# Altium schematic symbol library myICs.SchLib: 72 symbols
Pins are listed as number, name and electrical type; pins without a type are passive.

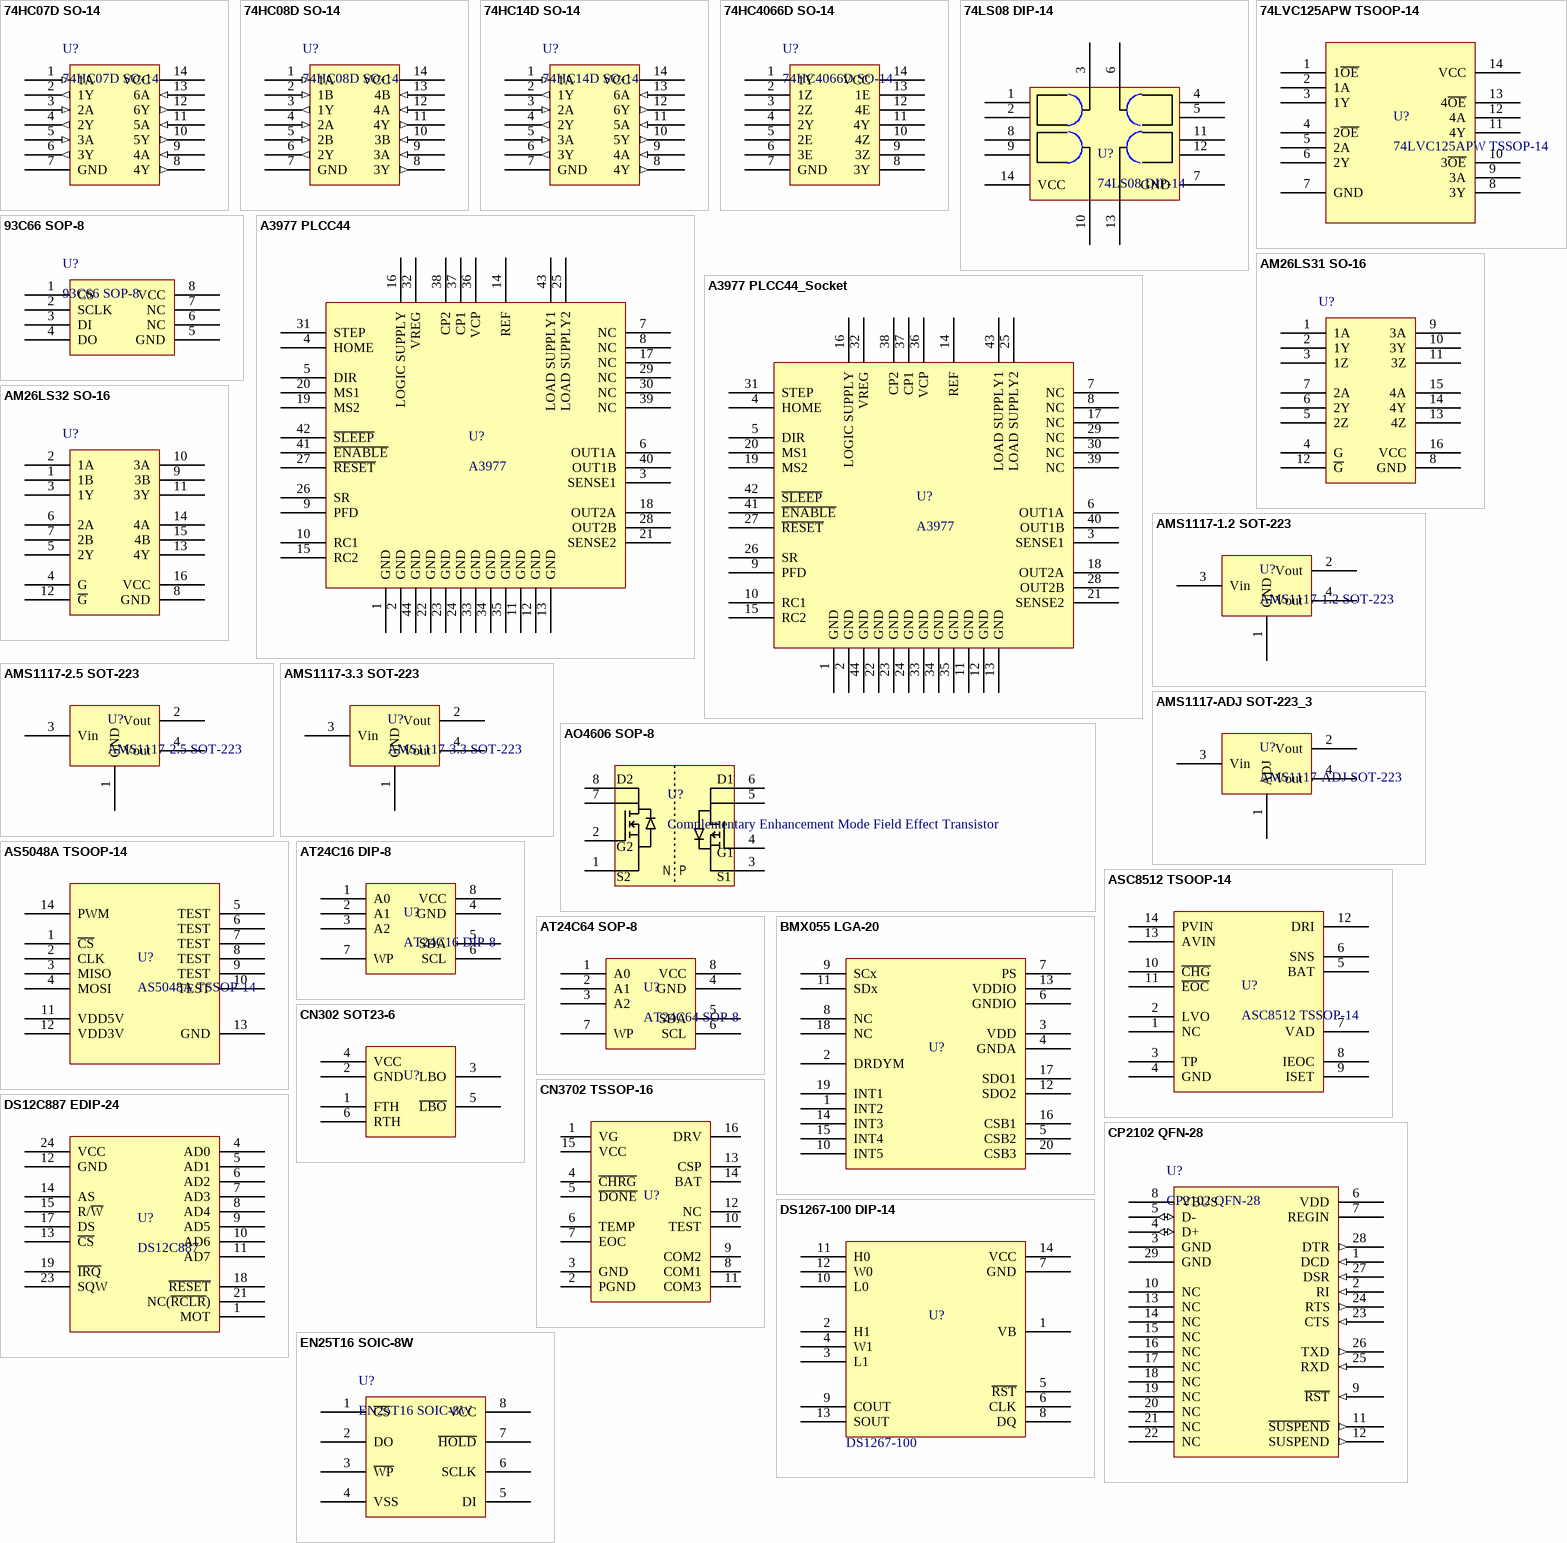
[diagram p0: symbols 74HC07D SO-14 to EN25T16 SOIC-8W]

## 74HC07D SO-14
designator U?
Hex Buffers/Drivers with Open-collector High-voltage Outputs
footprint 74HC07D SO-14 (SOP, 14-Leads, Body 8.7x3.9mm, Pitch 1.27mm, IPC Medium Density)
pins: 1 1A (in), 2 1Y (out), 3 2A (in), 4 2Y (out), 5 3A (in), 6 3Y (out), 7 GND (power), 8 4Y (out), 9 4A (in), 10 5Y (out), 11 5A (in), 12 6Y (out), 13 6A (in), 14 VCC (power)

## 74HC08D SO-14
designator U?
Quad 2-Input AND Gates
footprint 74HC08D SO-14 (SOP, 14-Leads, Body 8.7x3.9mm, Pitch 1.27mm, IPC Medium Density)
pins: 1 1A (in), 2 1B (in), 3 1Y (out), 4 2A (in), 5 2B (in), 6 2Y (out), 7 GND (power), 8 3Y (out), 9 3A (in), 10 3B (in), 11 4Y (out), 12 4A (in), 13 4B (in), 14 VCC (power)

## 74HC14D SO-14
designator U?
Hex Inverting Schmitt Trigger
footprint 74HC14D SO-14 (SOP, 14-Leads, Body 8.7x3.9mm, Pitch 1.27mm, IPC Medium Density)
pins: 1 1A (in), 2 1Y (out), 3 2A (in), 4 2Y (out), 5 3A (in), 6 3Y (out), 7 GND (power), 8 4Y (out), 9 4A (in), 10 5Y (out), 11 5A (in), 12 6Y (out), 13 6A (in), 14 VCC (power)

## 74HC4066D SO-14
designator U?
Quad bilateral switches
footprint 74HC4066D SO-14 (SOP, 14-Leads, Body 8.7x3.9mm, Pitch 1.27mm, IPC Medium Density)
pins: 1 1Y, 2 1Z, 3 2Z, 4 2Y, 5 2E, 6 3E, 7 GND, 8 3Y, 9 3Z, 10 4Z, 11 4Y, 12 4E, 13 1E, 14 VCC

## 74LS08 DIP-14
designator U?
Quad AND Gate
footprint 74LS08 DIP-14
pins: 1, 2, 3, 4, 5, 6, 7 GND, 8, 9, 10, 11, 12, 13, 14 VCC

## 74LVC125APW TSOOP-14
designator U?, comment 74LVC125APW TSSOP-14
Quad Buffer; 3-state
footprint 74LVC125APW TSSOP-14 (Shrink Small Outline; 14 Leads; Body Width 4.4 mm; Pitch 0.65 mm)
pins: 1 1~{OE}, 2 1A, 3 1Y, 4 2~{OE}, 5 2A, 6 2Y, 7 GND, 8 3Y, 9 3A, 10 3~{OE}, 11 4Y, 12 4A, 13 4~{OE}, 14 VCC

## 93C66 SOP-8
designator U?
4096-Bit Serial CMOS EEPROM
footprint 93C66 SOP-8 (8-Pin Small Outline Integrated Circuit 1.27 mm Pitch, IPC Low Density)
pins: 1 CS, 2 SCLK, 3 DI, 4 DO, 5 GND, 6 NC, 7 NC, 8 VCC

## A3977 PLCC44
designator U?, comment A3977
footprint A3977 PLCC-44 (44-Pin Leaded Chip Carrier 1.27 mm Pitch, IPC Low Density)
pins: 1 GND, 2 GND, 3 SENSE1, 4 HOME, 5 DIR, 6 OUT1A, 7 NC, 8 NC, 9 PFD, 10 RC1, 11 GND, 12 GND, 13 GND, 14 REF, 15 RC2, 16 LOGIC SUPPLY, 17 NC, 18 OUT2A, 19 MS2, 20 MS1, 21 SENSE2, 22 GND, 23 GND, 24 GND, 25 LOAD SUPPLY2, 26 SR, 27 ~{RESET}, 28 OUT2B, 29 NC, 30 NC, 31 STEP, 32 VREG, 33 GND, 34 GND, 35 GND, 36 VCP, 37 CP1, 38 CP2, 39 NC, 40 OUT1B, 41 ~{ENABLE}, 42 ~{SLEEP}, 43 LOAD SUPPLY1, 44 GND

## A3977 PLCC44_Socket
designator U?, comment A3977
footprint A3977 PLCC-44_Socket
pins: 1 GND, 2 GND, 3 SENSE1, 4 HOME, 5 DIR, 6 OUT1A, 7 NC, 8 NC, 9 PFD, 10 RC1, 11 GND, 12 GND, 13 GND, 14 REF, 15 RC2, 16 LOGIC SUPPLY, 17 NC, 18 OUT2A, 19 MS2, 20 MS1, 21 SENSE2, 22 GND, 23 GND, 24 GND, 25 LOAD SUPPLY2, 26 SR, 27 ~{RESET}, 28 OUT2B, 29 NC, 30 NC, 31 STEP, 32 VREG, 33 GND, 34 GND, 35 GND, 36 VCP, 37 CP1, 38 CP2, 39 NC, 40 OUT1B, 41 ~{ENABLE}, 42 ~{SLEEP}, 43 LOAD SUPPLY1, 44 GND

## AM26LS31 SO-16
designator U?  (value not drawn)
QUADRUPLE DIFF LINE DRIVER, SO-16
footprint IC_SOP-16 (SOP, 14-Leads, Body 8.7x3.9mm, Pitch 1.27mm, IPC Medium Density)
pins: 1 1A, 2 1Y, 3 1Z, 4 G, 5 2Z, 6 2Y, 7 2A, 8 GND, 9 3A, 10 3Y, 11 3Z, 12 ~{G}, 13 4Z, 14 4Y, 15 4A, 16 VCC

## AM26LS32 SO-16
designator U?  (value not drawn)
QUADRUPLE DIFF LINE RECEIVERS, SO-16
footprint IC_SOP-16 (SOP, 14-Leads, Body 8.7x3.9mm, Pitch 1.27mm, IPC Medium Density)
pins: 1 1B, 2 1A, 3 1Y, 4 G, 5 2Y, 6 2A, 7 2B, 8 GND, 9 3B, 10 3A, 11 3Y, 12 ~{G}, 13 4Y, 14 4A, 15 4B, 16 VCC

## AMS1117-1.2 SOT-223
designator U?
footprint AMS1117-ADJ SOT-223 (SOT223, 4-Leads, Body 6.5x3.5mm, Pitch 2.3mm, Lead Span 7mm, IPC Low Density)
pins: 1 GND, 2 Vout, 3 Vin, 4 Vout

## AMS1117-2.5 SOT-223
designator U?
footprint AMS1117-ADJ SOT-223 (SOT223, 4-Leads, Body 6.5x3.5mm, Pitch 2.3mm, Lead Span 7mm, IPC Low Density)
pins: 1 GND, 2 Vout, 3 Vin, 4 Vout

## AMS1117-3.3 SOT-223
designator U?
footprint AMS1117-ADJ SOT-223 (SOT223, 4-Leads, Body 6.5x3.5mm, Pitch 2.3mm, Lead Span 7mm, IPC Low Density)
pins: 1 GND, 2 Vout, 3 Vin, 4 Vout

## AMS1117-ADJ SOT-223_3
designator U?, comment AMS1117-ADJ SOT-223
footprint AMS1117-ADJ SOT-223 (SOT223, 4-Leads, Body 6.5x3.5mm, Pitch 2.3mm, Lead Span 7mm, IPC Low Density)
pins: 1 ADJ, 2 Vout, 3 Vin, 4 Vout

## AO4606 SOP-8
designator U?, comment Complementary Enhancement Mode Field Effect Transistor
footprint AO4606 SOP-8 (N+P MOSFET SOP-8)
pins: 1 S2, 2 G2, 3 S1, 4 G1, 5 D1, 6 D1, 7 D2, 8 D2
text: N; P

## AS5048A TSOOP-14
designator U?, comment AS5048A TSSOP-14
Magnetic Rotary Encoder, 14-bit, SPI
footprint AS5048A TSSOP-14 (Shrink Small Outline; 14 Leads; Body Width 4.4 mm; Pitch 0.65 mm)
pins: 1 ~{CS}, 2 CLK, 3 MISO, 4 MOSI, 5 TEST, 6 TEST, 7 TEST, 8 TEST, 9 TEST, 10 TEST, 11 VDD5V, 12 VDD3V, 13 GND, 14 PWM

## ASC8512 TSOOP-14
designator U?, comment ASC8512 TSSOP-14
Switch-mode Two cell Li-ion Battery Charger
footprint ASC8512 TSSOP-14 (Shrink Small Outline; 14 Leads; Body Width 4.4 mm; Pitch 0.65 mm)
pins: 1 NC, 2 LVO, 3 TP, 4 GND, 5 BAT, 6 SNS, 7 VAD, 8 IEOC, 9 ISET, 10 ~{CHG}, 11 ~{EOC}, 12 DRI, 13 AVIN, 14 PVIN

## AT24C16 DIP-8
designator U?
footprint AT24C16 DIP-8
pins: 1 A0, 2 A1, 3 A2, 4 GND, 5 SDA, 6 SCL, 7 WP, 8 VCC

## AT24C64 SOP-8
designator U?
footprint AT24C64 SOP-8 (8-Pin Small Outline Integrated Circuit 1.27 mm Pitch, IPC Low Density)
pins: 1 A0, 2 A1, 3 A2, 4 GND, 5 SDA, 6 SCL, 7 WP, 8 VCC

## BMX055 LGA-20
designator U?  (value not drawn)
9-Axis Sensor Module
footprint BMX055 LGA-20 (9-axis sensor module)
pins: 1 INT2, 2 DRDYM, 3 VDD, 4 GNDA, 5 CSB2, 6 GNDIO, 7 PS, 8 NC, 9 SCx, 10 INT5, 11 SDx, 12 SDO2, 13 VDDIO, 14 INT3, 15 INT4, 16 CSB1, 17 SDO1, 18 NC, 19 INT1, 20 CSB3

## CN302 SOT23-6
designator U?  (value not drawn)
Battery Monitor
footprint IC_SOT23-6 (SOT-23/SC-74A; 5 Leads; Body 3 x 3 mm, inc. leads (LxW max))
pins: 1 FTH, 2 GND, 3 LBO, 4 VCC, 5 ~{LBO}, 6 RTH

## CN3702 TSSOP-16
designator U?  (value not drawn)
5A, Standalone Li-ion Battery Charger
footprint CN3702 TSSOP-16 (Shrink Small Outline; 16 Leads; Body Width 4.4 mm; Pitch 0.65 mm)
pins: 1 VG (power), 2 PGND (power), 3 GND (power), 4 ~{CHRG}, 5 ~{DONE}, 6 TEMP, 7 EOC, 8 COM1, 9 COM2, 10 TEST, 11 COM3, 12 NC (hiz), 13 CSP, 14 BAT, 15 VCC (power), 16 DRV

## CP2102 QFN-28
designator U?
USB to UART Bridge
footprint CP2102 QFN-28_5X5 (QFN, 28-Leads, Body 5x5mm, Pitch 0.5mm, IPC High Density)
pins: 1 DCD (in), 2 RI (in), 3 GND (power), 4 D+ (io), 5 D- (io), 6 VDD (power), 7 REGIN (power), 8 VBUS (power), 9 ~{RST} (in), 10 NC, 11 ~{SUSPEND} (out), 12 SUSPEND (out), 13 NC, 14 NC, 15 NC, 16 NC, 17 NC, 18 NC, 19 NC, 20 NC, 21 NC, 22 NC, 23 CTS (in), 24 RTS (out), 25 RXD (in), 26 TXD (out), 27 DSR (in), 28 DTR (out), 29 GND (power)

## DS12C887 EDIP-24
designator U?, comment DS12C887
footprint DS12C887 EDIP-24
pins: 1 MOT, 4 AD0, 5 AD1, 6 AD2, 7 AD3, 8 AD4, 9 AD5, 10 AD6, 11 AD7, 12 GND, 13 ~{CS}, 14 AS, 15 R/~{W}, 17 DS, 18 ~{RESET}, 19 ~{IRQ}, 21 NC(~{RCLR}), 23 SQW, 24 VCC

## DS1267-100 DIP-14
designator U?  (value not drawn)
footprint DS1267-100 DIP-14
pins: 1 VB, 2 H1, 3 L1, 4 W1, 5 ~{RST}, 6 CLK, 7 GND, 8 DQ, 9 COUT, 10 L0, 11 H0, 12 W0, 13 SOUT, 14 VCC
text: DS1267-100

## EN25T16 SOIC-8W
designator U?
16 Mbit Uniform Sector, Serial Flash Memory with Dual Data Mode
footprint EN25T16 SOIC-8W (SOIC, 8-Leads, Body 5.4x5.4mm, Pitch 1.27mm)
pins: 1 ~{CS}, 2 DO, 3 ~{WP}, 4 VSS, 5 DI, 6 SCLK, 7 ~{HOLD}, 8 VCC

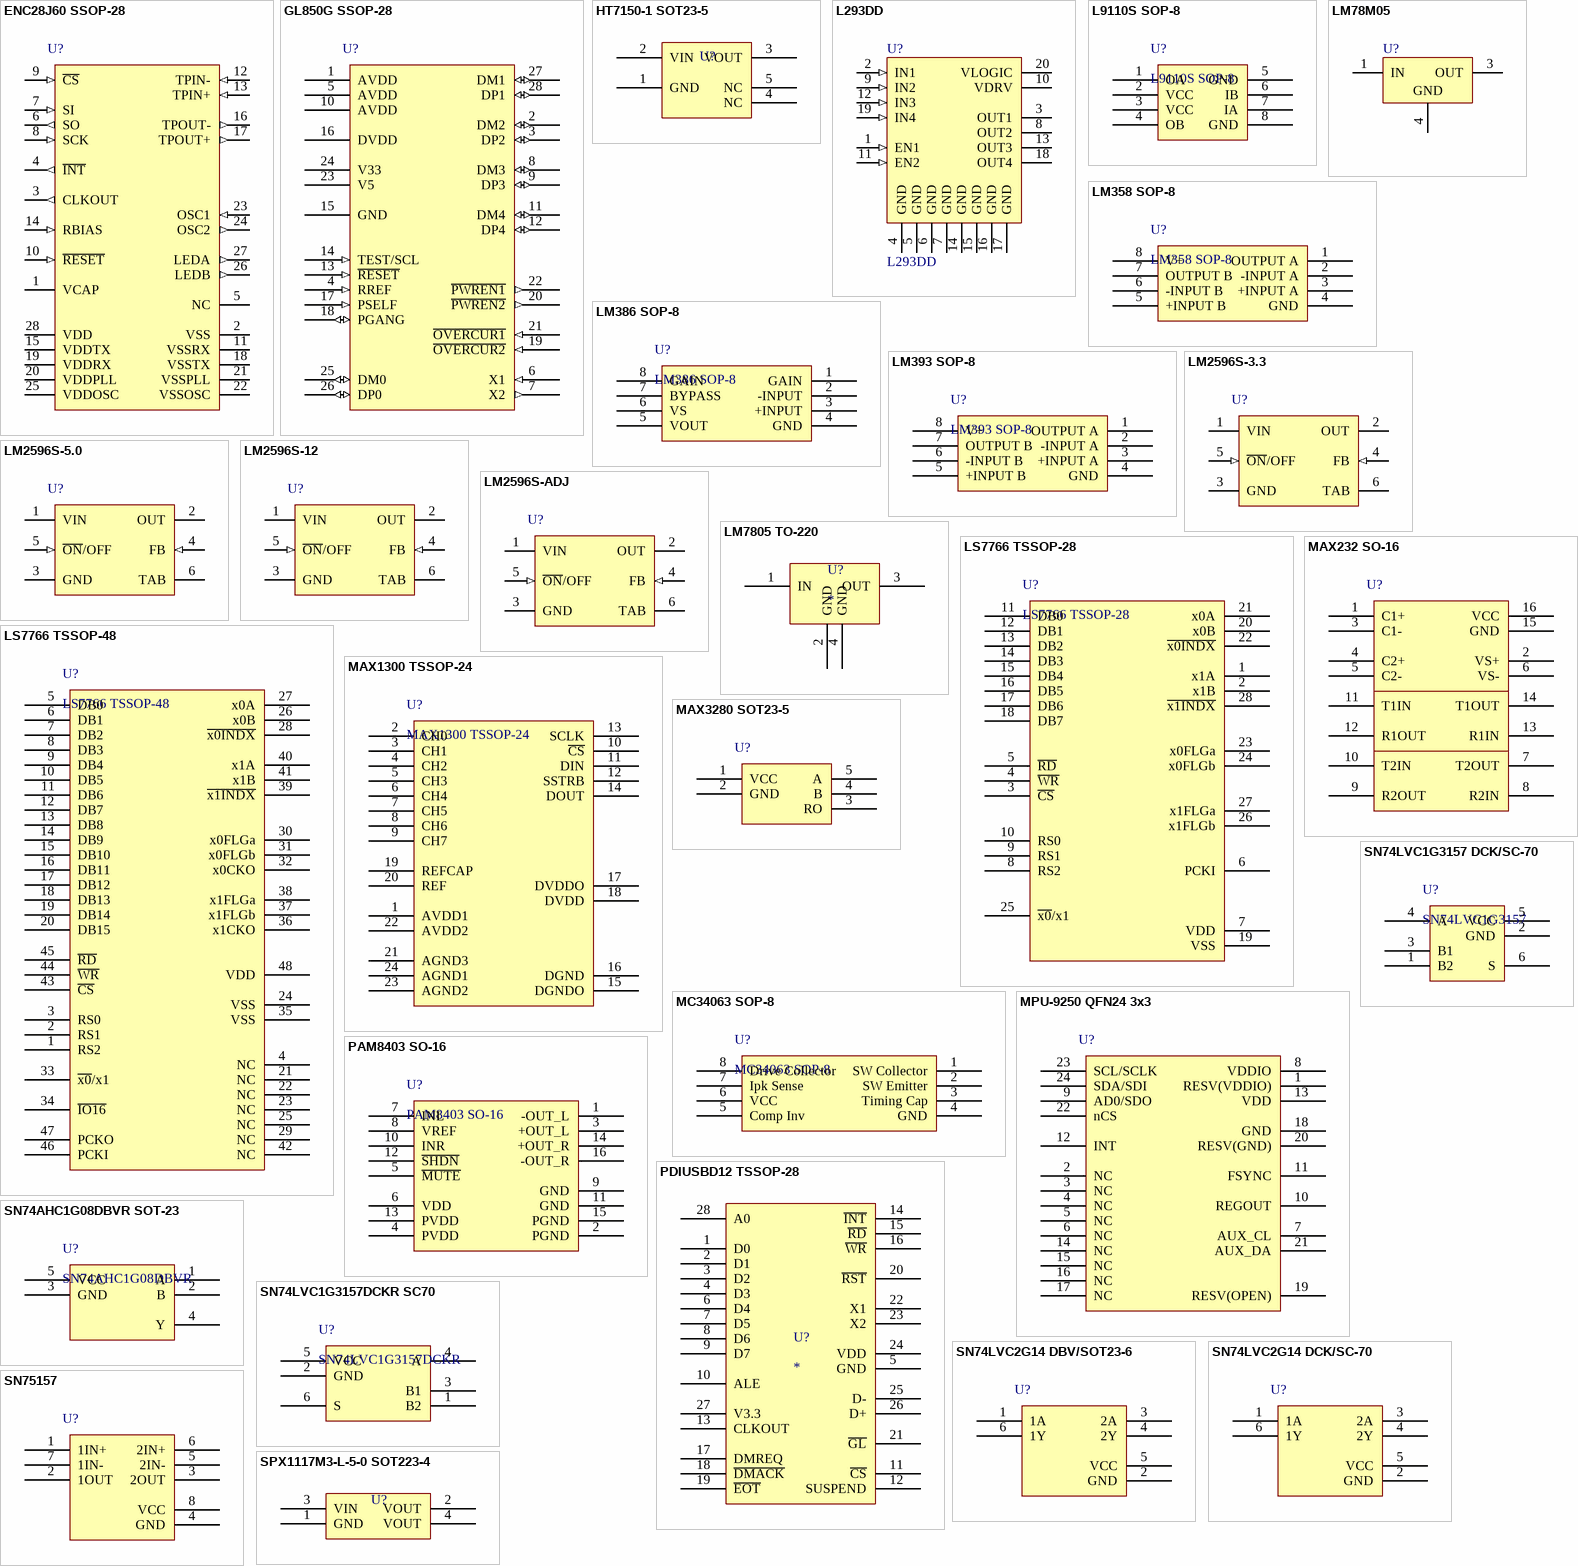
[diagram p1: symbols ENC28J60 SSOP-28 to SPX1117M3-L-5-0 SOT223-4]

## ENC28J60 SSOP-28
designator U?
Stand-Alone Ethernet Controller with SPI Interface, 28-Pin SSOP; FirstPublished: 29-Jan-2009; DatasheetVersion: RevC, Jan-2008; PackageVersion: revBB, Aug-2009; PackageReference: SSOP-SS28; Publisher: Altium Limited; PackageDescription: 28-Lead Plastic Shrink Small Outline (SS) - 5.3mm Body [SSOP]; Supplier 1: Digi-Key; Supplier Part Number 1: ENC28J60/SS-ND; Supplier 2: Farnell; Supplier Part Number 2: 1084620; Supplier 3: Newark; Supplier Part Number 3: 31K1708; Code_JEDEC: MS-150; Code_IPC: SOP65P780-28; ComponentLink1Description: Datasheet; ComponentLink1URL: http://ww1.microchip.com/downloads/en/DeviceDoc/39662c.pdf; ComponentLink2Description: Packaging Specification; ComponentLink2URL: http://www.microchip.com/stellent/groups/techpub_sg/documents/packagingspec/en012702.pdf; ComponentLink3Description: Microchip.com Home; ComponentLink3URL: http://www.microchip.com/
footprint ENC28J60 SSOP-28 (SSOP, Plastic; 28 Leads; Body Width 5.2 mm; Pitch 0.65 mm)
pins: 1 VCAP (power), 2 VSS (power), 3 CLKOUT (out), 4 ~{INT} (out), 5 NC, 6 SO (out), 7 SI (in), 8 SCK (in), 9 ~{CS} (in), 10 ~{RESET} (in), 11 VSSRX (power), 12 TPIN- (in), 13 TPIN+ (in), 14 RBIAS (in), 15 VDDTX (power), 16 TPOUT- (out), 17 TPOUT+ (out), 18 VSSTX (power), 19 VDDRX (power), 20 VDDPLL (power), 21 VSSPLL (power), 22 VSSOSC (power), 23 OSC1 (in), 24 OSC2 (out), 25 VDDOSC (power), 26 LEDB (out), 27 LEDA (out), 28 VDD (power)

## GL850G SSOP-28
designator U?
USB 2.0 HUB Controller, 28-Pin SSOP; FirstPublished: 29-Jan-2009; DatasheetVersion: RevC, Jan-2008; PackageVersion: revBB, Aug-2009; PackageReference: SSOP-SS28; Publisher: Altium Limited; PackageDescription: 28-Lead Plastic Shrink Small Outline (SS) - 5.3mm Body [SSOP]; Supplier 1: Digi-Key; Supplier Part Number 1: ENC28J60/SS-ND; Supplier 2: Farnell; Supplier Part Number 2: 1084620; Supplier 3: Newark; Supplier Part Number 3: 31K1708; Code_JEDEC: MS-150; Code_IPC: SOP65P780-28; ComponentLink1Description: Datasheet; ComponentLink1URL: http://ww1.microchip.com/downloads/en/DeviceDoc/39662c.pdf; ComponentLink2Description: Packaging Specification; ComponentLink2URL: http://www.microchip.com/stellent/groups/techpub_sg/documents/packagingspec/en012702.pdf; ComponentLink3Description: Microchip.com Home; ComponentLink3URL: http://www.microchip.com/
footprint GL850G SSOP-28 (SSOP, Plastic; 28 Leads; Body Width 5.2 mm; Pitch 0.65 mm)
pins: 1 AVDD (power), 2 DM2 (io), 3 DP2 (io), 4 RREF (in), 5 AVDD (power), 6 X1 (in), 7 X2 (out), 8 DM3 (io), 9 DP3 (io), 10 AVDD (power), 11 DM4 (io), 12 DP4 (io), 13 ~{RESET} (in), 14 TEST/SCL (in), 15 GND (power), 16 DVDD (power), 17 PSELF (in), 18 PGANG (io), 19 ~{OVERCUR2} (in), 20 ~{PWREN2} (out), 21 ~{OVERCUR1} (in), 22 ~{PWREN1} (out), 23 V5 (power), 24 V33 (power), 25 DM0 (io), 26 DP0 (io), 27 DM1 (io), 28 DP1 (io)

## HT7150-1 SOT23-5
designator U?  (value not drawn)
VREG, 5.0V, 30mA
footprint IC_SOT23-5 (SOT-23/SC-74A; 5 Leads; Body 3 x 3 mm, inc. leads (LxW max))
pins: 1 GND, 2 VIN, 3 VOUT, 4 NC, 5 NC

## L293DD
designator U?
Push-Pull Four Channel Driver With Diode; Published: 8-Jun-2000; LatestRevisionDate: 13-Apr-2006; LatestRevisionNote: IPC-7351 Footprint Added.; DatasheetVersion: Jun-1996; PackageVersion: Jul-2001; PackageReference: SO20; Publisher: Altium Limited; PackageDescription: 20-Pin Plastic Small Outline Integrated Circuit 1.27 mm Pitch; Code_JEDEC: MS-013-AC; Code_IPC: SOIC127P1030-20; ComponentLink1Description: Manufacturer Link; ComponentLink1URL: http://www.st.com/; ComponentLink2Description: Datasheet; ComponentLink2URL: http://www.st.com/stonline/products/literature/ds/1330/l293d.pdf
footprint L293DD SO-20 (20-Pin Plastic Small Outline Integrated Circuit 1.27 mm Pitch, IPC Low Density)
pins: 1 EN1 (in), 2 IN1 (in), 3 OUT1 (hiz), 4 GND (power), 5 GND (power), 6 GND (power), 7 GND (power), 8 OUT2 (hiz), 9 IN2 (in), 10 VDRV (power), 11 EN2 (in), 12 IN3 (in), 13 OUT3 (hiz), 14 GND (power), 15 GND (power), 16 GND (power), 17 GND (power), 18 OUT4 (hiz), 19 IN4 (in), 20 VLOGIC (power)

## L9110S SOP-8
designator U?
Motor Driver
footprint IC_SOP-8 (SOP-8)
pins: 1 OA, 2 VCC, 3 VCC, 4 OB, 5 GND, 6 IB, 7 IA, 8 GND

## LM78M05
designator U?
3-Terminal Positive Voltage Regulators; PartNumber: LM78M05CDT; Manufacturer: National Semiconductor; CompType: LDO IC; PackageTopMarking: NSUZXYTT*LM78M05*CDT; PowerWise: N; Published: 4-Dec-2008; DatasheetVersion: Aug-2005; PackageVersion: revC, Apr-2003; PackageReference: TD03B; Publisher: Altium Limited; PackageDescription: TO252, Molded, Jedec, 6.8 x 6.10 x 2.30mm Body, 3 Lead, 2.28mm Pitch, Surface Mount; RoHS: O; PinCount: 3; DigiKeyPartNumber: LM78M05CDT-ND; Code_JEDEC: TO-252-AA; ComponentLink1Description: LM78M05 Datasheet; ComponentLink1URL: http://www.national.com/ds/LM/LM78M05.pdf; ComponentLink2Description: LM78M05 Web Page; ComponentLink2URL: http://www.national.com/pf/LM/LM78M05.html; ComponentLink3Description: TD03B Package Page; ComponentLink3URL: http://www.national.com/packaging/folders/td03b.html
footprint LM78M05 (D-PAK, 4-Leads, Body 6.1x6.6mm, Pitch 2.29mm, Lead Span 9.7mm, IPC Low Density)
pins: 1 IN (power), 3 OUT (power), 4 GND (power)

## LM358 SOP-8
designator U?
Dual Operational Amplifier
footprint LM358 SOP-8 (8-Pin Small Outline Integrated Circuit 1.27 mm Pitch, IPC Low Density)
pins: 1 OUTPUT A, 2 -INPUT A, 3 +INPUT A, 4 GND, 5 +INPUT B, 6 -INPUT B, 7 OUTPUT B, 8 V+

## LM386 SOP-8
designator U?
LP Audio Amplifier
footprint LM386 SOP-8 (8-Pin Small Outline Integrated Circuit 1.27 mm Pitch, IPC Low Density)
pins: 1 GAIN, 2 -INPUT, 3 +INPUT, 4 GND, 5 VOUT, 6 VS, 7 BYPASS, 8 GAIN

## LM393 SOP-8
designator U?
LP Dual Voltage Comparators
footprint LM393 SOP-8 (8-Pin Small Outline Integrated Circuit 1.27 mm Pitch, IPC Low Density)
pins: 1 OUTPUT A, 2 -INPUT A, 3 +INPUT A, 4 GND, 5 +INPUT B, 6 -INPUT B, 7 OUTPUT B, 8 V+

## LM2596S-3.3
designator U?
SIMPLE SWITCHER Power Converter 150 KHz 3A Step-Down Voltage Regulator; PartNumber: LM2596S-3.3; Manufacturer: National Semiconductor; PackageTopMarking: NSUZXYTT*LM2596S*-3.3 P+; PowerWise: N; FirstPublished: 4-Dec-2008; DatasheetVersion: May-2002; PackageVersion: revD, Apr-2005; PackageReference: TS5B; Publisher: Altium Limited; PackageDescription: TO-263, Molded, .400 x .390 x .180in, 5 Lead, .067in Pitch, Surface Mount; CompType: Switcher; RoHS: O; PinCount: 5; DigiKeyPartNumber: LM2596S-3.3-ND; Code_JEDEC: MO-169-AB; ComponentLink1Description: LM2596 Datasheet; ComponentLink1URL: http://www.national.com/ds/LM/LM2596.pdf; ComponentLink2Description: LM2596 Web Page; ComponentLink2URL: http://www.national.com/pf/LM/LM2596.html; ComponentLink3Description: TS5B Package Page; ComponentLink3URL: http://www.national.com/packaging/folders/ts5b.html
footprint LM2596S (D2-PAK, 6-Leads, Body 8.6x10.2mm, Pitch 1.7mm, Lead Span 14.1mm, IPC Medium Density)
pins: 1 VIN (power), 2 OUT (power), 3 GND (power), 4 FB (in), 5 ~{ON}/OFF (in), 6 TAB (power)

## LM2596S-5.0
designator U?
SIMPLE SWITCHER Power Converter 150 KHz 3A Step-Down Voltage Regulator; PartNumber: LM2596S-5.0; Manufacturer: National Semiconductor; PackageTopMarking: NSUZXYTT*LM2596S*-5.0 P+; PowerWise: N; FirstPublished: 4-Dec-2008; DatasheetVersion: May-2002; PackageVersion: revD, Apr-2005; PackageReference: TS5B; Publisher: Altium Limited; PackageDescription: TO-263, Molded, .400 x .390 x .180in, 5 Lead, .067in Pitch, Surface Mount; CompType: Switcher; RoHS: O; PinCount: 5; DigiKeyPartNumber: LM2596S-5.0-ND; Code_JEDEC: MO-169-AB; ComponentLink1Description: LM2596 Datasheet; ComponentLink1URL: http://www.national.com/ds/LM/LM2596.pdf; ComponentLink2Description: LM2596 Web Page; ComponentLink2URL: http://www.national.com/pf/LM/LM2596.html; ComponentLink3Description: TS5B Package Page; ComponentLink3URL: http://www.national.com/packaging/folders/ts5b.html
footprint LM2596S (D2-PAK, 6-Leads, Body 8.6x10.2mm, Pitch 1.7mm, Lead Span 14.1mm, IPC Medium Density)
pins: 1 VIN (power), 2 OUT (power), 3 GND (power), 4 FB (in), 5 ~{ON}/OFF (in), 6 TAB (power)

## LM2596S-12
designator U?
SIMPLE SWITCHER Power Converter 150 KHz 3A Step-Down Voltage Regulator; PartNumber: LM2596S-12; Manufacturer: National Semiconductor; PackageTopMarking: NSUZXYTT*LM2596S*-12 P+; PowerWise: N; FirstPublished: 4-Dec-2008; DatasheetVersion: May-2002; PackageVersion: revD, Apr-2005; PackageReference: TS5B; Publisher: Altium Limited; PackageDescription: TO-263, Molded, .400 x .390 x .180in, 5 Lead, .067in Pitch, Surface Mount; CompType: Switcher; RoHS: O; PinCount: 5; DigiKeyPartNumber: LM2596S-12-ND; Code_JEDEC: MO-169-AB; ComponentLink1Description: LM2596 Datasheet; ComponentLink1URL: http://www.national.com/ds/LM/LM2596.pdf; ComponentLink2Description: LM2596 Web Page; ComponentLink2URL: http://www.national.com/pf/LM/LM2596.html; ComponentLink3Description: TS5B Package Page; ComponentLink3URL: http://www.national.com/packaging/folders/ts5b.html
footprint LM2596S (D2-PAK, 6-Leads, Body 8.6x10.2mm, Pitch 1.7mm, Lead Span 14.1mm, IPC Medium Density)
pins: 1 VIN (power), 2 OUT (power), 3 GND (power), 4 FB (in), 5 ~{ON}/OFF (in), 6 TAB (power)

## LM2596S-ADJ
designator U?
SIMPLE SWITCHER Power Converter 150 KHz 3A Step-Down Voltage Regulator; PartNumber: LM2596S-ADJ; Manufacturer: National Semiconductor; PackageTopMarking: NSUZXYTT*LM2596S*-ADJ P+; PowerWise: N; FirstPublished: 4-Dec-2008; DatasheetVersion: May-2002; PackageVersion: revD, Apr-2005; PackageReference: TS5B; Publisher: Altium Limited; PackageDescription: TO-263, Molded, .400 x .390 x .180in, 5 Lead, .067in Pitch, Surface Mount; CompType: Switcher; RoHS: O; PinCount: 5; DigiKeyPartNumber: LM2596S-ADJ-ND; Code_JEDEC: MO-169-AB; ComponentLink1Description: LM2596 Datasheet; ComponentLink1URL: http://www.national.com/ds/LM/LM2596.pdf; ComponentLink2Description: LM2596 Web Page; ComponentLink2URL: http://www.national.com/pf/LM/LM2596.html; ComponentLink3Description: TS5B Package Page; ComponentLink3URL: http://www.national.com/packaging/folders/ts5b.html
footprint LM2596S (D2-PAK, 6-Leads, Body 8.6x10.2mm, Pitch 1.7mm, Lead Span 14.1mm, IPC Medium Density)
pins: 1 VIN (power), 2 OUT (power), 3 GND (power), 4 FB (in), 5 ~{ON}/OFF (in), 6 TAB (power)

## LM7805 TO-220
designator U?
footprint LM7805 TO-220
pins: 1 IN, 2 GND, 3 OUT, 4 GND

## LS7766 TSSOP-28
designator U?
LS7766DO-TS, TSSOP-28, 32-BIT COUNTER
footprint IC_TSSOP-28 (Shrink Small Outline; 28 Leads; Body Width 4.4 mm; Pitch 0.65 mm)
pins: 1 x1A, 2 x1B, 3 ~{CS}, 4 ~{WR}, 5 ~{RD}, 6 PCKI, 7 VDD, 8 RS2, 9 RS1, 10 RS0, 11 DB0, 12 DB1, 13 DB2, 14 DB3, 15 DB4, 16 DB5, 17 DB6, 18 DB7, 19 VSS, 20 x0B, 21 x0A, 22 ~{x0INDX}, 23 x0FLGa, 24 x0FLGb, 25 ~{x0}/x1, 26 x1FLGb, 27 x1FLGa, 28 ~{x1INDX}

## LS7766 TSSOP-48
designator U?
LS7766DH-TS, TSSOP-48, 32-BIT COUNTER
footprint IC_TSSOP-48 (Shrink Small Outline; 48 Leads; Body Width 4.4 mm; Pitch 0.65 mm)
pins: 1 RS2, 2 RS1, 3 RS0, 4 NC, 5 DB0, 6 DB1, 7 DB2, 8 DB3, 9 DB4, 10 DB5, 11 DB6, 12 DB7, 13 DB8, 14 DB9, 15 DB10, 16 DB11, 17 DB12, 18 DB13, 19 DB14, 20 DB15, 21 NC, 22 NC, 23 NC, 24 VSS, 25 NC, 26 x0B, 27 x0A, 28 ~{x0INDX}, 29 NC, 30 x0FLGa, 31 x0FLGb, 32 x0CKO, 33 ~{x0}/x1, 34 ~{IO16}, 35 VSS, 36 x1CKO, 37 x1FLGb, 38 x1FLGa, 39 ~{x1INDX}, 40 x1A, 41 x1B, 42 NC, 43 ~{CS}, 44 ~{WR}, 45 ~{RD}, 46 PCKI, 47 PCKO, 48 VDD

## MAX232 SO-16
designator U?  (value not drawn)
DUAL EIA-232 DRIVER/RECEIVER, 4.5 to 5.5V
footprint IC_SOP-16 (SOP, 14-Leads, Body 8.7x3.9mm, Pitch 1.27mm, IPC Medium Density)
pins: 1 C1+, 2 VS+, 3 C1-, 4 C2+, 5 C2-, 6 VS-, 7 T2OUT, 8 R2IN, 9 R2OUT, 10 T2IN, 11 T1IN, 12 R1OUT, 13 R1IN, 14 T1OUT, 15 GND, 16 VCC

## MAX1300 TSSOP-24
designator U?
8-CH 16-BIT ADC
footprint IC_TSSOP-24 (Shrink Small Outline; 16 Leads; Body Width 4.4 mm; Pitch 0.65 mm)
pins: 1 AVDD1, 2 CH0, 3 CH1, 4 CH2, 5 CH3, 6 CH4, 7 CH5, 8 CH6, 9 CH7, 10 ~{CS}, 11 DIN, 12 SSTRB, 13 SCLK, 14 DOUT, 15 DGNDO, 16 DGND, 17 DVDDO, 18 DVDD, 19 REFCAP, 20 REF, 21 AGND3, 22 AVDD2, 23 AGND2, 24 AGND1

## MAX3280 SOT23-5
designator U?  (value not drawn)
DIFF RECEIVER, 3.3 to 5.5V
footprint IC_SOT23-5 (SOT-23/SC-74A; 5 Leads; Body 3 x 3 mm, inc. leads (LxW max))
pins: 1 VCC, 2 GND, 3 RO, 4 B, 5 A

## MC34063 SOP-8
designator U?
footprint MC34063 SOP-8 (8-Pin Small Outline Integrated Circuit 1.27 mm Pitch, IPC Low Density)
pins: 1 SW Collector, 2 SW Emitter, 3 Timing Cap, 4 GND, 5 Comp Inv, 6 VCC, 7 Ipk Sense, 8 Drive Collector

## MPU-9250 QFN24 3x3
designator U?  (value not drawn)
9-Axis MEMS
footprint MPU-9250 QFN24 3x3
pins: 1 RESV(VDDIO), 2 NC, 3 NC, 4 NC, 5 NC, 6 NC, 7 AUX_CL, 8 VDDIO, 9 AD0/SDO, 10 REGOUT, 11 FSYNC, 12 INT, 13 VDD, 14 NC, 15 NC, 16 NC, 17 NC, 18 GND, 19 RESV(OPEN), 20 RESV(GND), 21 AUX_DA, 22 nCS, 23 SCL/SCLK, 24 SDA/SDI

## PAM8403 SO-16
designator U?
Filterless 3W Class-D Stereo Audio Amplifier
footprint PAM8403 SO-16 (SOP, 14-Leads, Body 8.7x3.9mm, Pitch 1.27mm, IPC Medium Density)
pins: 1 -OUT_L, 2 PGND, 3 +OUT_L, 4 PVDD, 5 ~{MUTE}, 6 VDD, 7 INL, 8 VREF, 9 GND, 10 INR, 11 GND, 12 ~{SHDN}, 13 PVDD, 14 +OUT_R, 15 PGND, 16 -OUT_R

## PDIUSBD12 TSSOP-28
designator U?
footprint PDIUSBD12 TSSOP-28
pins: 1 D0, 2 D1, 3 D2, 4 D3, 5 GND, 6 D4, 7 D5, 8 D6, 9 D7, 10 ALE, 11 ~{CS}, 12 SUSPEND, 13 CLKOUT, 14 ~{INT}, 15 ~{RD}, 16 ~{WR}, 17 DMREQ, 18 ~{DMACK}, 19 ~{EOT}, 20 ~{RST}, 21 ~{GL}, 22 X1, 23 X2, 24 VDD, 25 D-, 26 D+, 27 V3.3, 28 A0

## SN74AHC1G08DBVR SOT-23
designator U?, comment SN74AHC1G08DBVR
SINGLE 2-INPUT POSITIVE-AND GATE
footprint SN74AHC1G08DBVR SOT-23 (SOT-23/SC-74A; 5 Leads; Body 3 x 3 mm, inc. leads (LxW max))
pins: 1 A, 2 B, 3 GND, 4 Y, 5 VCC

## SN74LVC1G3157 DCK/SC-70
designator U?, comment SN74LVC1G3157
Single SPDT Analog SW
footprint IC_SC-70 (DCK/SC-70; 6 Leads)
pins: 1 B2, 2 GND, 3 B1, 4 A, 5 VCC, 6 S

## SN74LVC1G3157DCKR SC70
designator U?, comment SN74LVC1G3157DCKR
SINGLE-POLE DOUBLE-THROW ANALOG SWITCH
footprint SN74LVC1G3157DCKR SC70
pins: 1 B2, 2 GND, 3 B1, 4 A, 5 VCC, 6 S

## SN74LVC2G14 DBV/SOT23-6
designator U?  (value not drawn)
DUAL SCHMITT-TRIGGER INVERTER, DBV/SOT23-6, 1.65 to 5.5V
footprint IC_SOT23-6 (SOT-23/SC-74A; 6 Leads; Body 3 x 3 mm, inc. leads (LxW max))
pins: 1 1A, 2 GND, 3 2A, 4 2Y, 5 VCC, 6 1Y

## SN74LVC2G14 DCK/SC-70
designator U?  (value not drawn)
DUAL SCHMITT-TRIGGER INVERTER, DCK/SC-70, 1.65 to 5.5V
footprint IC_SC-70 (DCK/SC-70; 6 Leads)
pins: 1 1A, 2 GND, 3 2A, 4 2Y, 5 VCC, 6 1Y

## SN75157
designator U?  (value not drawn)
DUAL DIFF RECEIVER, 4.5 to 5.5V
footprint IC_SOP-8 (SOP-8)
pins: 1 1IN+, 2 1OUT, 3 2OUT, 4 GND, 5 2IN-, 6 2IN+, 7 1IN-, 8 VCC

## SPX1117M3-L-5-0 SOT223-4
designator U?  (value not drawn)
VREG, 5.0V, 0.8A
footprint IC_SOT223-4 (SOT223, 4-Leads, Body 6.5x3.5mm, Pitch 2.3mm, Lead Span 7mm, IPC Low Density)
pins: 1 GND, 2 VOUT, 3 VIN, 4 VOUT

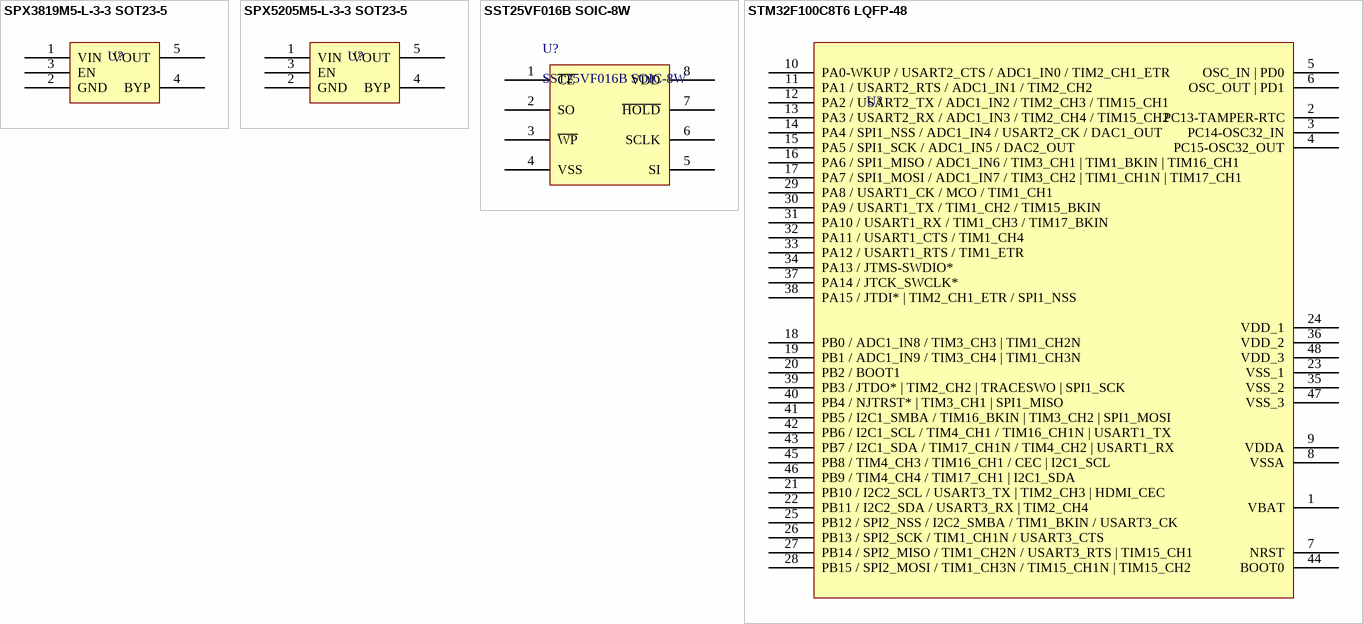
[diagram p2: symbols SPX3819M5-L-3-3 SOT23-5 to STM32F100C8T6 LQFP-48]

## SPX3819M5-L-3-3 SOT23-5
designator U?  (value not drawn)
VREG, 3.3V, 500mA
footprint IC_SOT23-5 (SOT-23/SC-74A; 5 Leads; Body 3 x 3 mm, inc. leads (LxW max))
pins: 1 VIN, 2 GND, 3 EN, 4 BYP, 5 VOUT

## SPX5205M5-L-3-3 SOT23-5
designator U?  (value not drawn)
VREG, 3.3V, 120mA
footprint IC_SOT23-5 (SOT-23/SC-74A; 5 Leads; Body 3 x 3 mm, inc. leads (LxW max))
pins: 1 VIN, 2 GND, 3 EN, 4 BYP, 5 VOUT

## SST25VF016B SOIC-8W
designator U?
16 Mbit SPI Serial Flash
footprint SST25VF016B SOIC-8W (SOIC, 8-Leads, Body 5.4x5.4mm, Pitch 1.27mm)
pins: 1 ~{CE}, 2 SO, 3 ~{WP}, 4 VSS, 5 SI, 6 SCLK, 7 ~{HOLD}, 8 VDD

## STM32F100C8T6 LQFP-48
designator U?  (value not drawn)
STM32F100C8T6, LQFP-48, ARM Cortex-M3 Medium-density Device
footprint STM32F100C8T6 LQFP-48
pins: 1 VBAT, 2 PC13-TAMPER-RTC, 3 PC14-OSC32_IN, 4 PC15-OSC32_OUT, 5 OSC_IN | PD0, 6 OSC_OUT | PD1, 7 NRST, 8 VSSA, 9 VDDA, 10 PA0-WKUP / USART2_CTS / ADC1_IN0 / TIM2_CH1_ETR, 11 PA1 / USART2_RTS / ADC1_IN1 / TIM2_CH2, 12 PA2 / USART2_TX / ADC1_IN2 / TIM2_CH3 / TIM15_CH1, 13 PA3 / USART2_RX / ADC1_IN3 / TIM2_CH4 / TIM15_CH2, 14 PA4 / SPI1_NSS / ADC1_IN4 / USART2_CK / DAC1_OUT, 15 PA5 / SPI1_SCK / ADC1_IN5 / DAC2_OUT, 16 PA6 / SPI1_MISO / ADC1_IN6 / TIM3_CH1 | TIM1_BKIN | TIM16_CH1, 17 PA7 / SPI1_MOSI / ADC1_IN7 / TIM3_CH2 | TIM1_CH1N | TIM17_CH1, 18 PB0 / ADC1_IN8 / TIM3_CH3 | TIM1_CH2N, 19 PB1 / ADC1_IN9 / TIM3_CH4 | TIM1_CH3N, 20 PB2 / BOOT1, 21 PB10 / I2C2_SCL / USART3_TX | TIM2_CH3 | HDMI_CEC, 22 PB11 / I2C2_SDA / USART3_RX | TIM2_CH4, 23 VSS_1, 24 VDD_1, 25 PB12 / SPI2_NSS / I2C2_SMBA / TIM1_BKIN / USART3_CK, 26 PB13 / SPI2_SCK / TIM1_CH1N / USART3_CTS, 27 PB14 / SPI2_MISO / TIM1_CH2N / USART3_RTS | TIM15_CH1, 28 PB15 / SPI2_MOSI / TIM1_CH3N / TIM15_CH1N | TIM15_CH2, 29 PA8 / USART1_CK / MCO / TIM1_CH1, 30 PA9 / USART1_TX / TIM1_CH2 / TIM15_BKIN, 31 PA10 / USART1_RX / TIM1_CH3 / TIM17_BKIN, 32 PA11 / USART1_CTS / TIM1_CH4, 33 PA12 / USART1_RTS / TIM1_ETR, 34 PA13 / JTMS-SWDIO*, 35 VSS_2, 36 VDD_2, 37 PA14 / JTCK_SWCLK*, 38 PA15 / JTDI* | TIM2_CH1_ETR / SPI1_NSS, 39 PB3 / JTDO* | TIM2_CH2 | TRACESWO | SPI1_SCK, 40 PB4 / NJTRST* | TIM3_CH1 | SPI1_MISO, 41 PB5 / I2C1_SMBA / TIM16_BKIN | TIM3_CH2 | SPI1_MOSI, 42 PB6 / I2C1_SCL / TIM4_CH1 / TIM16_CH1N | USART1_TX, 43 PB7 / I2C1_SDA / TIM17_CH1N / TIM4_CH2 | USART1_RX, 44 BOOT0, 45 PB8 / TIM4_CH3 / TIM16_CH1 / CEC | I2C1_SCL, 46 PB9 / TIM4_CH4 / TIM17_CH1 | I2C1_SDA, 47 VSS_3, 48 VDD_3

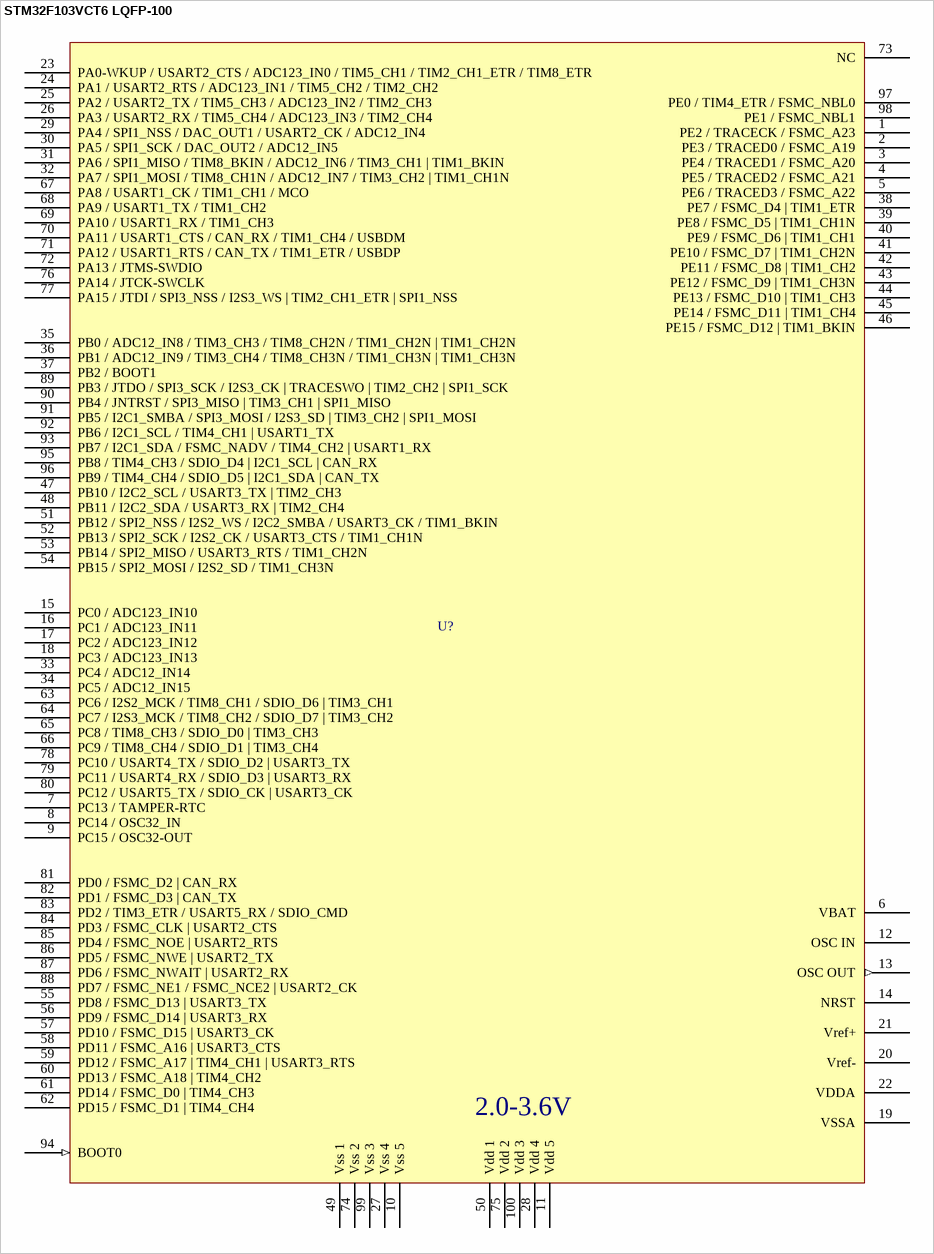
[diagram p3: symbol STM32F103VCT6 LQFP-100]

## STM32F103VCT6 LQFP-100
designator U?  (value not drawn)
STM32F103VCT6, LQFP-100, ARM Cortex-M3 High-density Device
footprint STM32F103VCT6 LQFP-100 (LQFP100)
pins: 1 PE2 / TRACECK / FSMC_A23, 2 PE3 / TRACED0 / FSMC_A19, 3 PE4 / TRACED1 / FSMC_A20, 4 PE5 / TRACED2 / FSMC_A21, 5 PE6 / TRACED3 / FSMC_A22, 6 VBAT, 7 PC13 / TAMPER-RTC, 8 PC14 / OSC32_IN, 9 PC15 / OSC32-OUT, 10 Vss 5 (power), 11 Vdd 5 (power), 12 OSC IN, 13 OSC OUT (out), 14 NRST, 15 PC0 / ADC123_IN10, 16 PC1 / ADC123_IN11, 17 PC2 / ADC123_IN12, 18 PC3 / ADC123_IN13, 19 VSSA (power), 20 Vref- (power), 21 Vref+ (power), 22 VDDA (power), 23 PA0-WKUP / USART2_CTS / ADC123_IN0 / TIM5_CH1 / TIM2_CH1_ETR / TIM8_ETR, 24 PA1 / USART2_RTS / ADC123_IN1 / TIM5_CH2 / TIM2_CH2, 25 PA2 / USART2_TX / TIM5_CH3 / ADC123_IN2 / TIM2_CH3, 26 PA3 / USART2_RX / TIM5_CH4 / ADC123_IN3 / TIM2_CH4, 27 Vss 4 (power), 28 Vdd 4 (power), 29 PA4 / SPI1_NSS / DAC_OUT1 / USART2_CK / ADC12_IN4, 30 PA5 / SPI1_SCK / DAC_OUT2 / ADC12_IN5, 31 PA6 / SPI1_MISO / TIM8_BKIN / ADC12_IN6 / TIM3_CH1 | TIM1_BKIN, 32 PA7 / SPI1_MOSI / TIM8_CH1N / ADC12_IN7 / TIM3_CH2 | TIM1_CH1N, 33 PC4 / ADC12_IN14, 34 PC5 / ADC12_IN15, 35 PB0 / ADC12_IN8 / TIM3_CH3 / TIM8_CH2N / TIM1_CH2N | TIM1_CH2N, 36 PB1 / ADC12_IN9 / TIM3_CH4 / TIM8_CH3N / TIM1_CH3N | TIM1_CH3N, 37 PB2 / BOOT1, 38 PE7 / FSMC_D4 | TIM1_ETR, 39 PE8 / FSMC_D5 | TIM1_CH1N, 40 PE9 / FSMC_D6 | TIM1_CH1, 41 PE10 / FSMC_D7 | TIM1_CH2N, 42 PE11 / FSMC_D8 | TIM1_CH2, 43 PE12 / FSMC_D9 | TIM1_CH3N, 44 PE13 / FSMC_D10 | TIM1_CH3, 45 PE14 / FSMC_D11 | TIM1_CH4, 46 PE15 / FSMC_D12 | TIM1_BKIN, 47 PB10 / I2C2_SCL / USART3_TX | TIM2_CH3, 48 PB11 / I2C2_SDA / USART3_RX | TIM2_CH4, 49 Vss 1 (power), 50 Vdd 1 (power), 51 PB12 / SPI2_NSS / I2S2_WS / I2C2_SMBA / USART3_CK / TIM1_BKIN, 52 PB13 / SPI2_SCK / I2S2_CK / USART3_CTS / TIM1_CH1N, 53 PB14 / SPI2_MISO / USART3_RTS / TIM1_CH2N, 54 PB15 / SPI2_MOSI / I2S2_SD / TIM1_CH3N, 55 PD8 / FSMC_D13 | USART3_TX, 56 PD9 / FSMC_D14 | USART3_RX, 57 PD10 / FSMC_D15 | USART3_CK, 58 PD11 / FSMC_A16 | USART3_CTS, 59 PD12 / FSMC_A17 | TIM4_CH1 | USART3_RTS, 60 PD13 / FSMC_A18 | TIM4_CH2, 61 PD14 / FSMC_D0 | TIM4_CH3, 62 PD15 / FSMC_D1 | TIM4_CH4, 63 PC6 / I2S2_MCK / TIM8_CH1 / SDIO_D6 | TIM3_CH1, 64 PC7 / I2S3_MCK / TIM8_CH2 / SDIO_D7 | TIM3_CH2, 65 PC8 / TIM8_CH3 / SDIO_D0 | TIM3_CH3, 66 PC9 / TIM8_CH4 / SDIO_D1 | TIM3_CH4, 67 PA8 / USART1_CK / TIM1_CH1 / MCO, 68 PA9 / USART1_TX / TIM1_CH2, 69 PA10 / USART1_RX / TIM1_CH3, 70 PA11 / USART1_CTS / CAN_RX / TIM1_CH4 / USBDM, 71 PA12 / USART1_RTS / CAN_TX / TIM1_ETR / USBDP, 72 PA13 / JTMS-SWDIO, 73 NC, 74 Vss 2 (power), 75 Vdd 2 (power), 76 PA14 / JTCK-SWCLK, 77 PA15 / JTDI / SPI3_NSS / I2S3_WS | TIM2_CH1_ETR | SPI1_NSS, 78 PC10 / USART4_TX / SDIO_D2 | USART3_TX, 79 PC11 / USART4_RX / SDIO_D3 | USART3_RX, 80 PC12 / USART5_TX / SDIO_CK | USART3_CK, 81 PD0 / FSMC_D2 | CAN_RX, 82 PD1 / FSMC_D3 | CAN_TX, 83 PD2 / TIM3_ETR / USART5_RX / SDIO_CMD, 84 PD3 / FSMC_CLK | USART2_CTS, 85 PD4 / FSMC_NOE | USART2_RTS, 86 PD5 / FSMC_NWE | USART2_TX, 87 PD6 / FSMC_NWAIT | USART2_RX, 88 PD7 / FSMC_NE1 / FSMC_NCE2 | USART2_CK, 89 PB3 / JTDO / SPI3_SCK / I2S3_CK | TRACESWO | TIM2_CH2 | SPI1_SCK, 90 PB4 / JNTRST / SPI3_MISO | TIM3_CH1 | SPI1_MISO, 91 PB5 / I2C1_SMBA / SPI3_MOSI / I2S3_SD | TIM3_CH2 | SPI1_MOSI, 92 PB6 / I2C1_SCL / TIM4_CH1 | USART1_TX, 93 PB7 / I2C1_SDA / FSMC_NADV / TIM4_CH2 | USART1_RX, 94 BOOT0 (in), 95 PB8 / TIM4_CH3 / SDIO_D4 | I2C1_SCL | CAN_RX, 96 PB9 / TIM4_CH4 / SDIO_D5 | I2C1_SDA | CAN_TX, 97 PE0 / TIM4_ETR / FSMC_NBL0, 98 PE1 / FSMC_NBL1, 99 Vss 3 (power), 100 Vdd 3 (power)
text: 2.0-3.6V

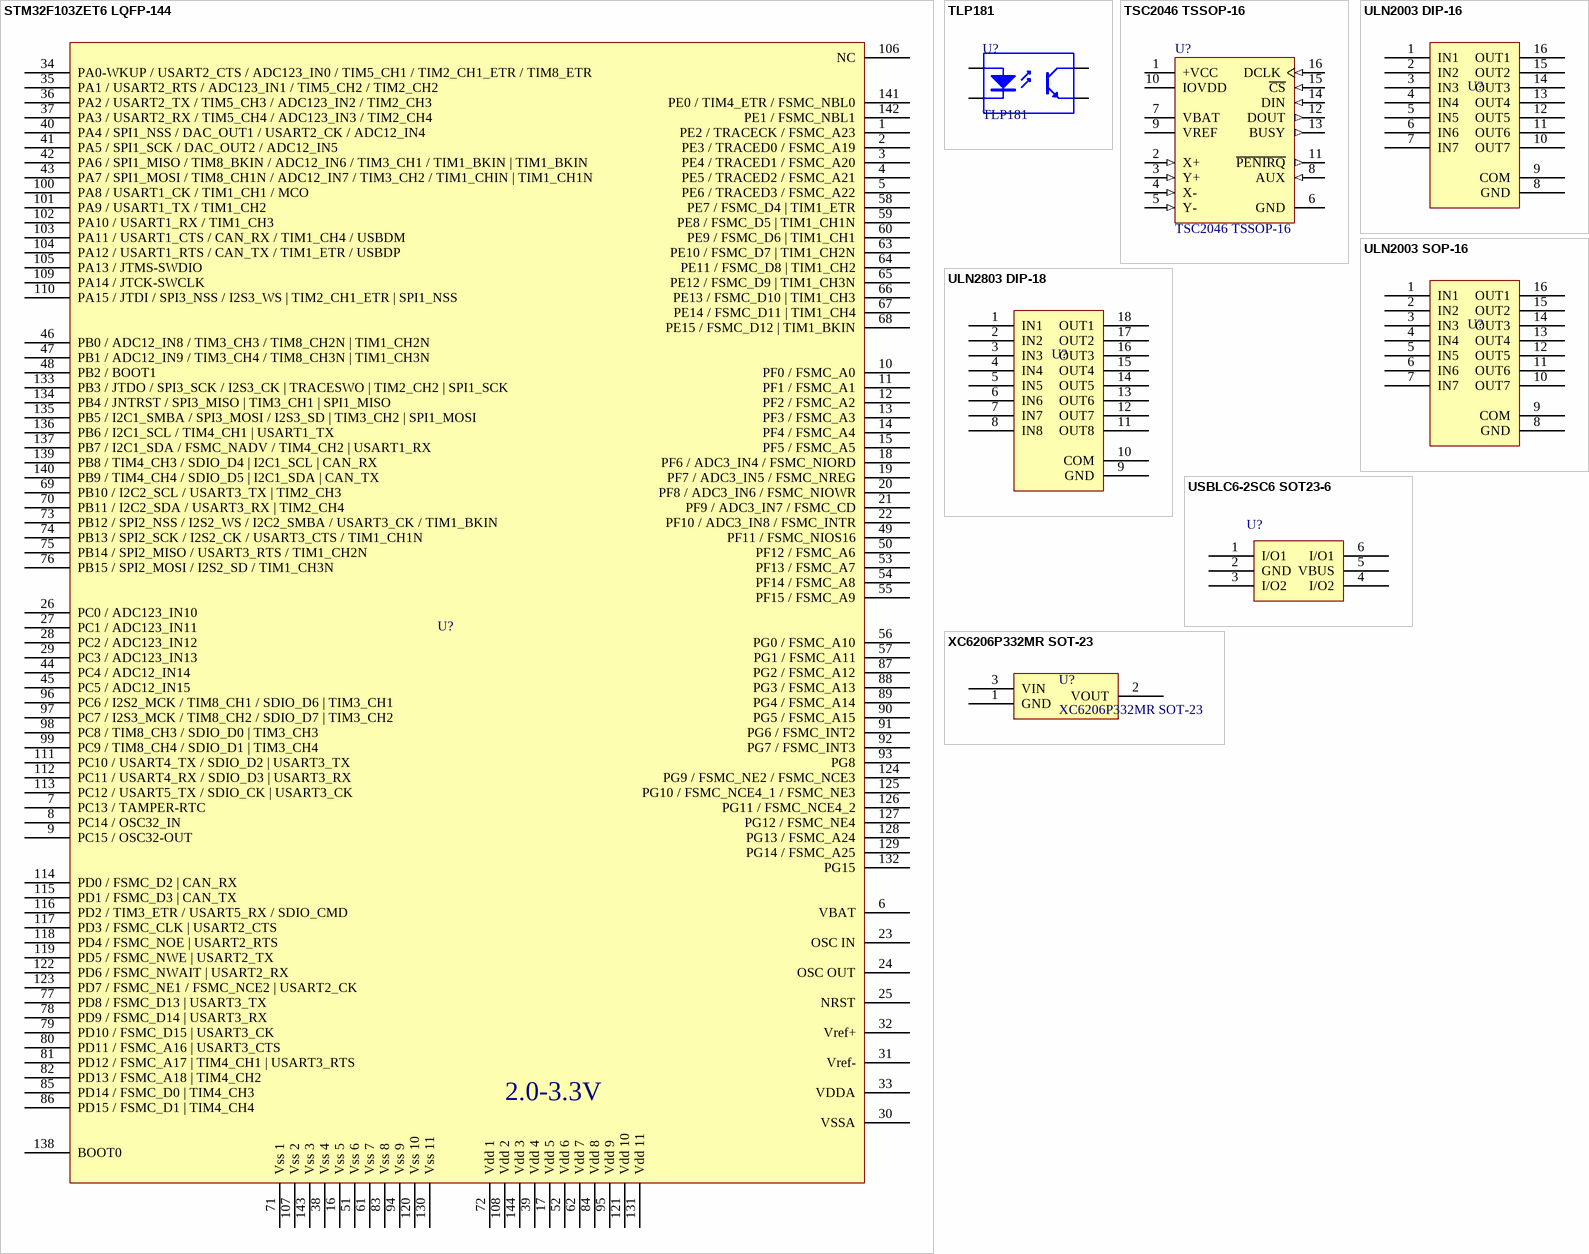
[diagram p4: symbols STM32F103ZET6 LQFP-144 to XC6206P332MR SOT-23]

## STM32F103ZET6 LQFP-144
designator U?, comment STM32F103ZET6  (value not drawn)
STM32F103ZET6, LQFP-144, ARM Cortex-M3 High-density Device
footprint STM32F103ZET6 LQFP-144 (LQFP144, 20x20)
pins: 1 PE2 / TRACECK / FSMC_A23, 2 PE3 / TRACED0 / FSMC_A19, 3 PE4 / TRACED1 / FSMC_A20, 4 PE5 / TRACED2 / FSMC_A21, 5 PE6 / TRACED3 / FSMC_A22, 6 VBAT (power), 7 PC13 / TAMPER-RTC, 8 PC14 / OSC32_IN, 9 PC15 / OSC32-OUT, 10 PF0 / FSMC_A0, 11 PF1 / FSMC_A1, 12 PF2 / FSMC_A2, 13 PF3 / FSMC_A3, 14 PF4 / FSMC_A4, 15 PF5 / FSMC_A5, 16 Vss 5 (power), 17 Vdd 5 (power), 18 PF6 / ADC3_IN4 / FSMC_NIORD, 19 PF7 / ADC3_IN5 / FSMC_NREG, 20 PF8 / ADC3_IN6 / FSMC_NIOWR, 21 PF9 / ADC3_IN7 / FSMC_CD, 22 PF10 / ADC3_IN8 / FSMC_INTR, 23 OSC IN, 24 OSC OUT, 25 NRST, 26 PC0 / ADC123_IN10, 27 PC1 / ADC123_IN11, 28 PC2 / ADC123_IN12, 29 PC3 / ADC123_IN13, 30 VSSA (power), 31 Vref- (power), 32 Vref+ (power), 33 VDDA (power), 34 PA0-WKUP / USART2_CTS / ADC123_IN0 / TIM5_CH1 / TIM2_CH1_ETR / TIM8_ETR, 35 PA1 / USART2_RTS / ADC123_IN1 / TIM5_CH2 / TIM2_CH2, 36 PA2 / USART2_TX / TIM5_CH3 / ADC123_IN2 / TIM2_CH3, 37 PA3 / USART2_RX / TIM5_CH4 / ADC123_IN3 / TIM2_CH4, 38 Vss 4 (power), 39 Vdd 4 (power), 40 PA4 / SPI1_NSS / DAC_OUT1 / USART2_CK / ADC12_IN4, 41 PA5 / SPI1_SCK / DAC_OUT2 / ADC12_IN5, 42 PA6 / SPI1_MISO / TIM8_BKIN / ADC12_IN6 / TIM3_CH1 / TIM1_BKIN | TIM1_BKIN, 43 PA7 / SPI1_MOSI / TIM8_CH1N / ADC12_IN7 / TIM3_CH2 / TIM1_CHIN | TIM1_CH1N, 44 PC4 / ADC12_IN14, 45 PC5 / ADC12_IN15, 46 PB0 / ADC12_IN8 / TIM3_CH3 / TIM8_CH2N | TIM1_CH2N, 47 PB1 / ADC12_IN9 / TIM3_CH4 / TIM8_CH3N | TIM1_CH3N, 48 PB2 / BOOT1, 49 PF11 / FSMC_NIOS16, 50 PF12 / FSMC_A6, 51 Vss 6 (power), 52 Vdd 6 (power), 53 PF13 / FSMC_A7, 54 PF14 / FSMC_A8, 55 PF15 / FSMC_A9, 56 PG0 / FSMC_A10, 57 PG1 / FSMC_A11, 58 PE7 / FSMC_D4 | TIM1_ETR, 59 PE8 / FSMC_D5 | TIM1_CH1N, 60 PE9 / FSMC_D6 | TIM1_CH1, 61 Vss 7 (power), 62 Vdd 7 (power), 63 PE10 / FSMC_D7 | TIM1_CH2N, 64 PE11 / FSMC_D8 | TIM1_CH2, 65 PE12 / FSMC_D9 | TIM1_CH3N, 66 PE13 / FSMC_D10 | TIM1_CH3, 67 PE14 / FSMC_D11 | TIM1_CH4, 68 PE15 / FSMC_D12 | TIM1_BKIN, 69 PB10 / I2C2_SCL / USART3_TX | TIM2_CH3, 70 PB11 / I2C2_SDA / USART3_RX | TIM2_CH4, 71 Vss 1 (power), 72 Vdd 1 (power), 73 PB12 / SPI2_NSS / I2S2_WS / I2C2_SMBA / USART3_CK / TIM1_BKIN, 74 PB13 / SPI2_SCK / I2S2_CK / USART3_CTS / TIM1_CH1N, 75 PB14 / SPI2_MISO / USART3_RTS / TIM1_CH2N, 76 PB15 / SPI2_MOSI / I2S2_SD / TIM1_CH3N, 77 PD8 / FSMC_D13 | USART3_TX, 78 PD9 / FSMC_D14 | USART3_RX, 79 PD10 / FSMC_D15 | USART3_CK, 80 PD11 / FSMC_A16 | USART3_CTS, 81 PD12 / FSMC_A17 | TIM4_CH1 | USART3_RTS, 82 PD13 / FSMC_A18 | TIM4_CH2, 83 Vss 8 (power), 84 Vdd 8 (power), 85 PD14 / FSMC_D0 | TIM4_CH3, 86 PD15 / FSMC_D1 | TIM4_CH4, 87 PG2 / FSMC_A12, 88 PG3 / FSMC_A13, 89 PG4 / FSMC_A14, 90 PG5 / FSMC_A15, 91 PG6 / FSMC_INT2, 92 PG7 / FSMC_INT3, 93 PG8, 94 Vss 9 (power), 95 Vdd 9 (power), 96 PC6 / I2S2_MCK / TIM8_CH1 / SDIO_D6 | TIM3_CH1, 97 PC7 / I2S3_MCK / TIM8_CH2 / SDIO_D7 | TIM3_CH2, 98 PC8 / TIM8_CH3 / SDIO_D0 | TIM3_CH3, 99 PC9 / TIM8_CH4 / SDIO_D1 | TIM3_CH4, 100 PA8 / USART1_CK / TIM1_CH1 / MCO, 101 PA9 / USART1_TX / TIM1_CH2, 102 PA10 / USART1_RX / TIM1_CH3, 103 PA11 / USART1_CTS / CAN_RX / TIM1_CH4 / USBDM, 104 PA12 / USART1_RTS / CAN_TX / TIM1_ETR / USBDP, 105 PA13 / JTMS-SWDIO, 106 NC, 107 Vss 2 (power), 108 Vdd 2 (power), 109 PA14 / JTCK-SWCLK, 110 PA15 / JTDI / SPI3_NSS / I2S3_WS | TIM2_CH1_ETR | SPI1_NSS, 111 PC10 / USART4_TX / SDIO_D2 | USART3_TX, 112 PC11 / USART4_RX / SDIO_D3 | USART3_RX, 113 PC12 / USART5_TX / SDIO_CK | USART3_CK, 114 PD0 / FSMC_D2 | CAN_RX, 115 PD1 / FSMC_D3 | CAN_TX, 116 PD2 / TIM3_ETR / USART5_RX / SDIO_CMD, 117 PD3 / FSMC_CLK | USART2_CTS, 118 PD4 / FSMC_NOE | USART2_RTS, 119 PD5 / FSMC_NWE | USART2_TX, 120 Vss 10 (power), 121 Vdd 10 (power), 122 PD6 / FSMC_NWAIT | USART2_RX, 123 PD7 / FSMC_NE1 / FSMC_NCE2 | USART2_CK, 124 PG9 / FSMC_NE2 / FSMC_NCE3, 125 PG10 / FSMC_NCE4_1 / FSMC_NE3, 126 PG11 / FSMC_NCE4_2, 127 PG12 / FSMC_NE4, 128 PG13 / FSMC_A24, 129 PG14 / FSMC_A25, 130 Vss 11 (power), 131 Vdd 11 (power), 132 PG15, 133 PB3 / JTDO / SPI3_SCK / I2S3_CK | TRACESWO | TIM2_CH2 | SPI1_SCK, 134 PB4 / JNTRST / SPI3_MISO | TIM3_CH1 | SPI1_MISO, 135 PB5 / I2C1_SMBA / SPI3_MOSI / I2S3_SD | TIM3_CH2 | SPI1_MOSI, 136 PB6 / I2C1_SCL / TIM4_CH1 | USART1_TX, 137 PB7 / I2C1_SDA / FSMC_NADV / TIM4_CH2 | USART1_RX, 138 BOOT0, 139 PB8 / TIM4_CH3 / SDIO_D4 | I2C1_SCL | CAN_RX, 140 PB9 / TIM4_CH4 / SDIO_D5 | I2C1_SDA | CAN_TX, 141 PE0 / TIM4_ETR / FSMC_NBL0, 142 PE1 / FSMC_NBL1, 143 Vss 3 (power), 144 Vdd 3 (power)
text: 2.0-3.3V

## TLP181
designator U?
4-Pin Optocoupler; Published: 24-Mar-1999; LatestRevisionDate: 04-Mar-2005; LatestRevisionNote: Sch pins 3 & 4 Swapped.; DatasheetVersion: Nov-2003; PackageReference: DIP-4; Publisher: Altium Limited
footprint TLP181 (Optocoupler)
pins: 1 A "Anode", 3 K "Cathode", 4 E "Emitter", 6 C "Collector"

## TSC2046 TSSOP-16
designator U?
4-Wire Touch Screen controller with Low-Voltage I/O Interface, 16-Pin TSSOP, Pb-Free; Published: 6-Oct-2005; DatasheetVersion: Jan-2005; PackageVersion: Feb-1999; PackageReference: PW016; Publisher: Altium Limited; PackageDescription: Shrink Small Outline; 16 Leads; Body Width 4.4 mm; Pitch 0.65 mm; ComponentLink1Description: Manufacturer Link; ComponentLink1URL: http://focus.ti.com/docs/prod/folders/print/tsc2046.html; ComponentLink2Description: Datasheet; ComponentLink2URL: http://focus.ti.com/lit/ds/symlink/tcs2046.pdf
footprint IC_TSSOP-16 (Shrink Small Outline; 16 Leads; Body Width 4.4 mm; Pitch 0.65 mm)
pins: 1 +VCC (power), 2 X+ (in), 3 Y+ (in), 4 X- (in), 5 Y- (in), 6 GND (power), 7 VBAT (power), 8 AUX (in), 9 VREF (power), 10 IOVDD (power), 11 ~{PENIRQ} (out), 12 DOUT (out), 13 BUSY (out), 14 DIN (in), 15 ~{CS} (in), 16 DCLK (in)

## ULN2003 DIP-16
designator U?  (value not drawn)
footprint ULN2003 DIP-16
pins: 1 IN1, 2 IN2, 3 IN3, 4 IN4, 5 IN5, 6 IN6, 7 IN7, 8 GND, 9 COM, 10 OUT7, 11 OUT6, 12 OUT5, 13 OUT4, 14 OUT3, 15 OUT2, 16 OUT1

## ULN2003 SOP-16
designator U?  (value not drawn)
ULN2003, Seven Darlington Arrays, SOP-16
footprint IC_SOP-16 (SOP, 14-Leads, Body 8.7x3.9mm, Pitch 1.27mm, IPC Medium Density)
pins: 1 IN1, 2 IN2, 3 IN3, 4 IN4, 5 IN5, 6 IN6, 7 IN7, 8 GND, 9 COM, 10 OUT7, 11 OUT6, 12 OUT5, 13 OUT4, 14 OUT3, 15 OUT2, 16 OUT1

## ULN2803 DIP-18
designator U?  (value not drawn)
footprint ULN2803 DIP-18
pins: 1 IN1, 2 IN2, 3 IN3, 4 IN4, 5 IN5, 6 IN6, 7 IN7, 8 IN8, 9 GND, 10 COM, 11 OUT8, 12 OUT7, 13 OUT6, 14 OUT5, 15 OUT4, 16 OUT3, 17 OUT2, 18 OUT1

## USBLC6-2SC6 SOT23-6
designator U?  (value not drawn)
ESD PROTECTION
footprint IC_SOT23-6 (SOT-23/SC-74A; 6 Leads; Body 3 x 3 mm, inc. leads (LxW max))
pins: 1 I/O1, 2 GND, 3 I/O2, 4 I/O2, 5 VBUS, 6 I/O1

## XC6206P332MR SOT-23
designator U?
VREG, 3.3V, 0.5A
footprint REG_SOT-23 (SOT23, 3-Leads, Body 2.9x1.3mm, Pitch 0.95mm, Lead Span 2.5mm, IPC Low Density)
pins: 1 GND, 2 VOUT, 3 VIN

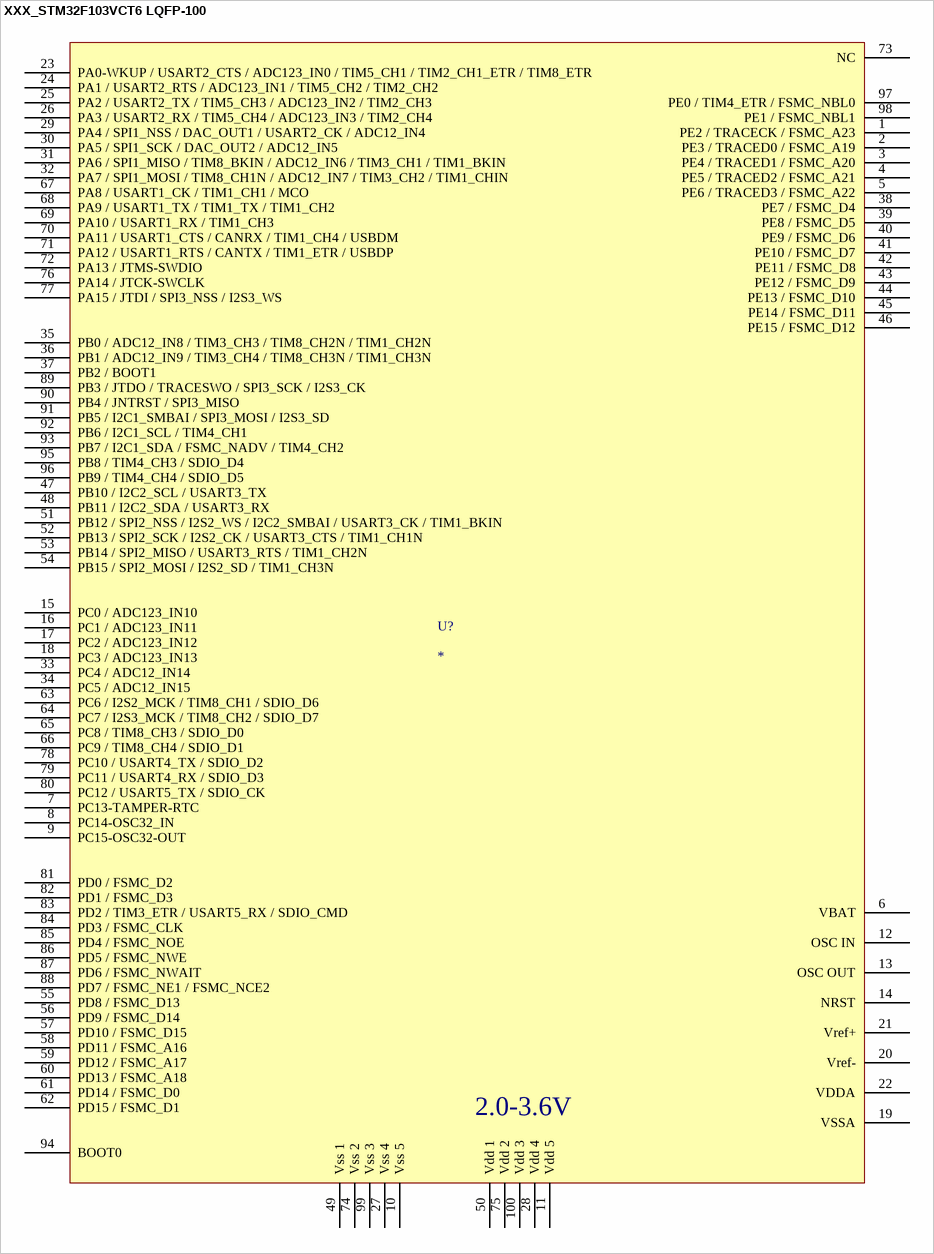
[diagram p5: symbol XXX_STM32F103VCT6 LQFP-100]

## XXX_STM32F103VCT6 LQFP-100
designator U?
Cortex-M3
footprint STM32F103VCT6 LQFP-100 (LQFP100)
pins: 1 PE2 / TRACECK / FSMC_A23, 2 PE3 / TRACED0 / FSMC_A19, 3 PE4 / TRACED1 / FSMC_A20, 4 PE5 / TRACED2 / FSMC_A21, 5 PE6 / TRACED3 / FSMC_A22, 6 VBAT, 7 PC13-TAMPER-RTC, 8 PC14-OSC32_IN, 9 PC15-OSC32-OUT, 10 Vss 5, 11 Vdd 5, 12 OSC IN, 13 OSC OUT, 14 NRST, 15 PC0 / ADC123_IN10, 16 PC1 / ADC123_IN11, 17 PC2 / ADC123_IN12, 18 PC3 / ADC123_IN13, 19 VSSA, 20 Vref-, 21 Vref+, 22 VDDA, 23 PA0-WKUP / USART2_CTS / ADC123_IN0 / TIM5_CH1 / TIM2_CH1_ETR / TIM8_ETR, 24 PA1 / USART2_RTS / ADC123_IN1 / TIM5_CH2 / TIM2_CH2, 25 PA2 / USART2_TX / TIM5_CH3 / ADC123_IN2 / TIM2_CH3, 26 PA3 / USART2_RX / TIM5_CH4 / ADC123_IN3 / TIM2_CH4, 27 Vss 4, 28 Vdd 4, 29 PA4 / SPI1_NSS / DAC_OUT1 / USART2_CK / ADC12_IN4, 30 PA5 / SPI1_SCK / DAC_OUT2 / ADC12_IN5, 31 PA6 / SPI1_MISO / TIM8_BKIN / ADC12_IN6 / TIM3_CH1 / TIM1_BKIN, 32 PA7 / SPI1_MOSI / TIM8_CH1N / ADC12_IN7 / TIM3_CH2 / TIM1_CHIN, 33 PC4 / ADC12_IN14, 34 PC5 / ADC12_IN15, 35 PB0 / ADC12_IN8 / TIM3_CH3 / TIM8_CH2N / TIM1_CH2N, 36 PB1 / ADC12_IN9 / TIM3_CH4 / TIM8_CH3N / TIM1_CH3N, 37 PB2 / BOOT1, 38 PE7 / FSMC_D4, 39 PE8 / FSMC_D5, 40 PE9 / FSMC_D6, 41 PE10 / FSMC_D7, 42 PE11 / FSMC_D8, 43 PE12 / FSMC_D9, 44 PE13 / FSMC_D10, 45 PE14 / FSMC_D11, 46 PE15 / FSMC_D12, 47 PB10 / I2C2_SCL / USART3_TX, 48 PB11 / I2C2_SDA / USART3_RX, 49 Vss 1, 50 Vdd 1, 51 PB12 / SPI2_NSS / I2S2_WS / I2C2_SMBAI / USART3_CK / TIM1_BKIN, 52 PB13 / SPI2_SCK / I2S2_CK / USART3_CTS / TIM1_CH1N, 53 PB14 / SPI2_MISO / USART3_RTS / TIM1_CH2N, 54 PB15 / SPI2_MOSI / I2S2_SD / TIM1_CH3N, 55 PD8 / FSMC_D13, 56 PD9 / FSMC_D14, 57 PD10 / FSMC_D15, 58 PD11 / FSMC_A16, 59 PD12 / FSMC_A17, 60 PD13 / FSMC_A18, 61 PD14 / FSMC_D0, 62 PD15 / FSMC_D1, 63 PC6 / I2S2_MCK / TIM8_CH1 / SDIO_D6, 64 PC7 / I2S3_MCK / TIM8_CH2 / SDIO_D7, 65 PC8 / TIM8_CH3 / SDIO_D0, 66 PC9 / TIM8_CH4 / SDIO_D1, 67 PA8 / USART1_CK / TIM1_CH1 / MCO, 68 PA9 / USART1_TX / TIM1_TX / TIM1_CH2, 69 PA10 / USART1_RX / TIM1_CH3, 70 PA11 / USART1_CTS / CANRX / TIM1_CH4 / USBDM, 71 PA12 / USART1_RTS / CANTX / TIM1_ETR / USBDP, 72 PA13 / JTMS-SWDIO, 73 NC, 74 Vss 2, 75 Vdd 2, 76 PA14 / JTCK-SWCLK, 77 PA15 / JTDI / SPI3_NSS / I2S3_WS, 78 PC10 / USART4_TX / SDIO_D2, 79 PC11 / USART4_RX / SDIO_D3, 80 PC12 / USART5_TX / SDIO_CK, 81 PD0 / FSMC_D2, 82 PD1 / FSMC_D3, 83 PD2 / TIM3_ETR / USART5_RX / SDIO_CMD, 84 PD3 / FSMC_CLK, 85 PD4 / FSMC_NOE, 86 PD5 / FSMC_NWE, 87 PD6 / FSMC_NWAIT, 88 PD7 / FSMC_NE1 / FSMC_NCE2, 89 PB3 / JTDO / TRACESWO / SPI3_SCK / I2S3_CK, 90 PB4 / JNTRST / SPI3_MISO, 91 PB5 / I2C1_SMBAI / SPI3_MOSI / I2S3_SD, 92 PB6 / I2C1_SCL / TIM4_CH1, 93 PB7 / I2C1_SDA / FSMC_NADV / TIM4_CH2, 94 BOOT0, 95 PB8 / TIM4_CH3 / SDIO_D4, 96 PB9 / TIM4_CH4 / SDIO_D5, 97 PE0 / TIM4_ETR / FSMC_NBL0, 98 PE1 / FSMC_NBL1, 99 Vss 3, 100 Vdd 3
text: 2.0-3.6V

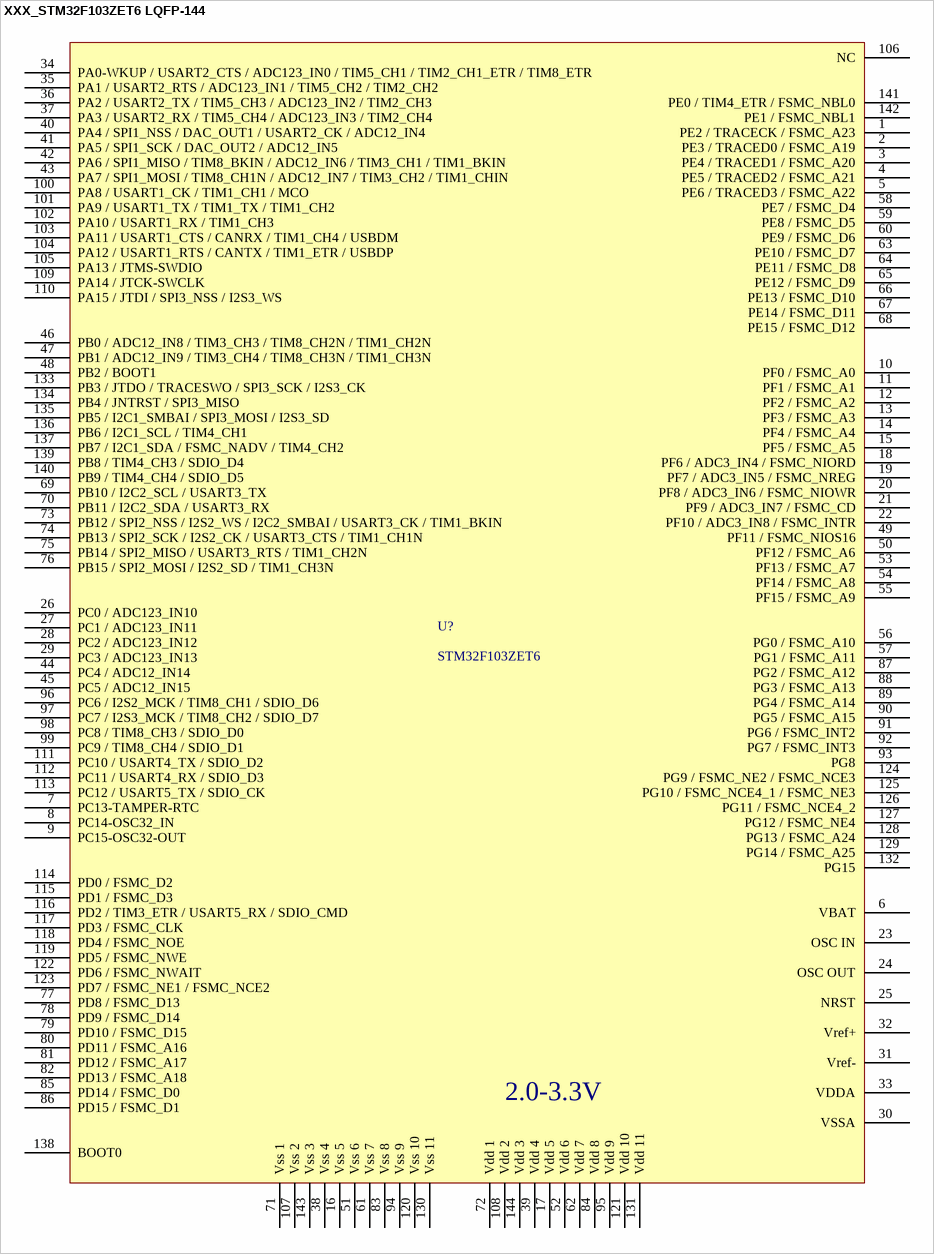
[diagram p6: symbol XXX_STM32F103ZET6 LQFP-144]

## XXX_STM32F103ZET6 LQFP-144
designator U?, comment STM32F103ZET6
Cortex-M3
footprint STM32F103ZET6 LQFP-144 (LQFP144, 20x20)
pins: 1 PE2 / TRACECK / FSMC_A23, 2 PE3 / TRACED0 / FSMC_A19, 3 PE4 / TRACED1 / FSMC_A20, 4 PE5 / TRACED2 / FSMC_A21, 5 PE6 / TRACED3 / FSMC_A22, 6 VBAT, 7 PC13-TAMPER-RTC, 8 PC14-OSC32_IN, 9 PC15-OSC32-OUT, 10 PF0 / FSMC_A0, 11 PF1 / FSMC_A1, 12 PF2 / FSMC_A2, 13 PF3 / FSMC_A3, 14 PF4 / FSMC_A4, 15 PF5 / FSMC_A5, 16 Vss 5, 17 Vdd 5, 18 PF6 / ADC3_IN4 / FSMC_NIORD, 19 PF7 / ADC3_IN5 / FSMC_NREG, 20 PF8 / ADC3_IN6 / FSMC_NIOWR, 21 PF9 / ADC3_IN7 / FSMC_CD, 22 PF10 / ADC3_IN8 / FSMC_INTR, 23 OSC IN, 24 OSC OUT, 25 NRST, 26 PC0 / ADC123_IN10, 27 PC1 / ADC123_IN11, 28 PC2 / ADC123_IN12, 29 PC3 / ADC123_IN13, 30 VSSA, 31 Vref-, 32 Vref+, 33 VDDA, 34 PA0-WKUP / USART2_CTS / ADC123_IN0 / TIM5_CH1 / TIM2_CH1_ETR / TIM8_ETR, 35 PA1 / USART2_RTS / ADC123_IN1 / TIM5_CH2 / TIM2_CH2, 36 PA2 / USART2_TX / TIM5_CH3 / ADC123_IN2 / TIM2_CH3, 37 PA3 / USART2_RX / TIM5_CH4 / ADC123_IN3 / TIM2_CH4, 38 Vss 4, 39 Vdd 4, 40 PA4 / SPI1_NSS / DAC_OUT1 / USART2_CK / ADC12_IN4, 41 PA5 / SPI1_SCK / DAC_OUT2 / ADC12_IN5, 42 PA6 / SPI1_MISO / TIM8_BKIN / ADC12_IN6 / TIM3_CH1 / TIM1_BKIN, 43 PA7 / SPI1_MOSI / TIM8_CH1N / ADC12_IN7 / TIM3_CH2 / TIM1_CHIN, 44 PC4 / ADC12_IN14, 45 PC5 / ADC12_IN15, 46 PB0 / ADC12_IN8 / TIM3_CH3 / TIM8_CH2N / TIM1_CH2N, 47 PB1 / ADC12_IN9 / TIM3_CH4 / TIM8_CH3N / TIM1_CH3N, 48 PB2 / BOOT1, 49 PF11 / FSMC_NIOS16, 50 PF12 / FSMC_A6, 51 Vss 6, 52 Vdd 6, 53 PF13 / FSMC_A7, 54 PF14 / FSMC_A8, 55 PF15 / FSMC_A9, 56 PG0 / FSMC_A10, 57 PG1 / FSMC_A11, 58 PE7 / FSMC_D4, 59 PE8 / FSMC_D5, 60 PE9 / FSMC_D6, 61 Vss 7, 62 Vdd 7, 63 PE10 / FSMC_D7, 64 PE11 / FSMC_D8, 65 PE12 / FSMC_D9, 66 PE13 / FSMC_D10, 67 PE14 / FSMC_D11, 68 PE15 / FSMC_D12, 69 PB10 / I2C2_SCL / USART3_TX, 70 PB11 / I2C2_SDA / USART3_RX, 71 Vss 1, 72 Vdd 1, 73 PB12 / SPI2_NSS / I2S2_WS / I2C2_SMBAI / USART3_CK / TIM1_BKIN, 74 PB13 / SPI2_SCK / I2S2_CK / USART3_CTS / TIM1_CH1N, 75 PB14 / SPI2_MISO / USART3_RTS / TIM1_CH2N, 76 PB15 / SPI2_MOSI / I2S2_SD / TIM1_CH3N, 77 PD8 / FSMC_D13, 78 PD9 / FSMC_D14, 79 PD10 / FSMC_D15, 80 PD11 / FSMC_A16, 81 PD12 / FSMC_A17, 82 PD13 / FSMC_A18, 83 Vss 8, 84 Vdd 8, 85 PD14 / FSMC_D0, 86 PD15 / FSMC_D1, 87 PG2 / FSMC_A12, 88 PG3 / FSMC_A13, 89 PG4 / FSMC_A14, 90 PG5 / FSMC_A15, 91 PG6 / FSMC_INT2, 92 PG7 / FSMC_INT3, 93 PG8, 94 Vss 9, 95 Vdd 9, 96 PC6 / I2S2_MCK / TIM8_CH1 / SDIO_D6, 97 PC7 / I2S3_MCK / TIM8_CH2 / SDIO_D7, 98 PC8 / TIM8_CH3 / SDIO_D0, 99 PC9 / TIM8_CH4 / SDIO_D1, 100 PA8 / USART1_CK / TIM1_CH1 / MCO, 101 PA9 / USART1_TX / TIM1_TX / TIM1_CH2, 102 PA10 / USART1_RX / TIM1_CH3, 103 PA11 / USART1_CTS / CANRX / TIM1_CH4 / USBDM, 104 PA12 / USART1_RTS / CANTX / TIM1_ETR / USBDP, 105 PA13 / JTMS-SWDIO, 106 NC, 107 Vss 2, 108 Vdd 2, 109 PA14 / JTCK-SWCLK, 110 PA15 / JTDI / SPI3_NSS / I2S3_WS, 111 PC10 / USART4_TX / SDIO_D2, 112 PC11 / USART4_RX / SDIO_D3, 113 PC12 / USART5_TX / SDIO_CK, 114 PD0 / FSMC_D2, 115 PD1 / FSMC_D3, 116 PD2 / TIM3_ETR / USART5_RX / SDIO_CMD, 117 PD3 / FSMC_CLK, 118 PD4 / FSMC_NOE, 119 PD5 / FSMC_NWE, 120 Vss 10, 121 Vdd 10, 122 PD6 / FSMC_NWAIT, 123 PD7 / FSMC_NE1 / FSMC_NCE2, 124 PG9 / FSMC_NE2 / FSMC_NCE3, 125 PG10 / FSMC_NCE4_1 / FSMC_NE3, 126 PG11 / FSMC_NCE4_2, 127 PG12 / FSMC_NE4, 128 PG13 / FSMC_A24, 129 PG14 / FSMC_A25, 130 Vss 11, 131 Vdd 11, 132 PG15, 133 PB3 / JTDO / TRACESWO / SPI3_SCK / I2S3_CK, 134 PB4 / JNTRST / SPI3_MISO, 135 PB5 / I2C1_SMBAI / SPI3_MOSI / I2S3_SD, 136 PB6 / I2C1_SCL / TIM4_CH1, 137 PB7 / I2C1_SDA / FSMC_NADV / TIM4_CH2, 138 BOOT0, 139 PB8 / TIM4_CH3 / SDIO_D4, 140 PB9 / TIM4_CH4 / SDIO_D5, 141 PE0 / TIM4_ETR / FSMC_NBL0, 142 PE1 / FSMC_NBL1, 143 Vss 3, 144 Vdd 3
text: 2.0-3.3V